# Altium schematic symbol library sch.SchLib: 348 symbols (part 1 of 2)
Pins are listed as number, name and electrical type; pins without a type are passive.

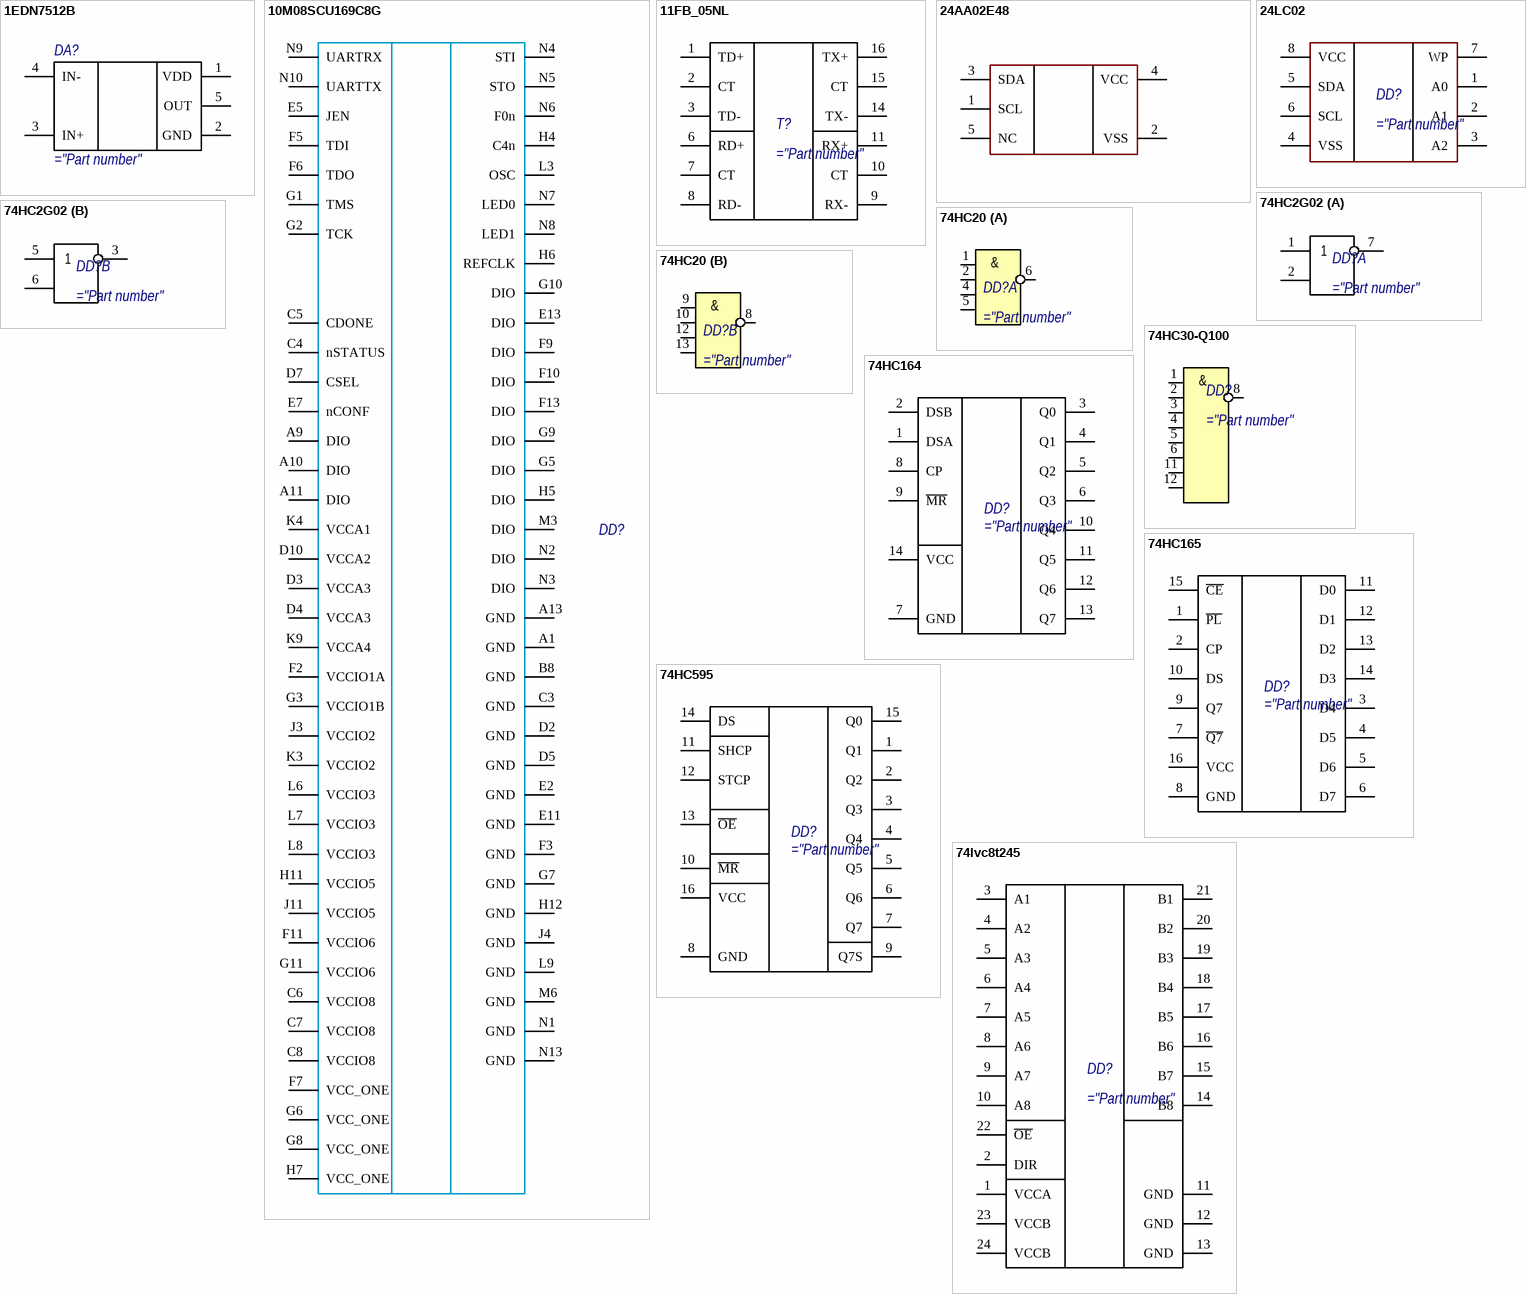
[diagram p0: symbols 1EDN7512B to 74lvc8t245]

## 1EDN7512B
designator DA?
pins: 1 VDD, 2 GND, 3 IN+, 4 IN-, 5 OUT

## 10M08SCU169C8G
designator DD?
pins: A1 GND, A9 DIO, A10 DIO, A11 DIO, A13 GND, B8 GND, C3 GND, C4 nSTATUS, C5 CDONE, C6 VCCIO8, C7 VCCIO8, C8 VCCIO8, D2 GND, D3 VCCA3, D4 VCCA3, D5 GND, D7 CSEL, D10 VCCA2, E2 GND, E5 JEN, E7 nCONF, E11 GND, E13 DIO, F2 VCCIO1A, F3 GND, F5 TDI, F6 TDO, F7 VCC_ONE, F9 DIO, F10 DIO, F11 VCCIO6, F13 DIO, G1 TMS, G2 TCK, G3 VCCIO1B, G5 DIO, G6 VCC_ONE, G7 GND, G8 VCC_ONE, G9 DIO, G10 DIO, G11 VCCIO6, H4 C4n, H5 DIO, H6 REFCLK, H7 VCC_ONE, H11 VCCIO5, H12 GND, J3 VCCIO2, J4 GND, J11 VCCIO5, K3 VCCIO2, K4 VCCA1, K9 VCCA4, L3 OSC, L6 VCCIO3, L7 VCCIO3, L8 VCCIO3, L9 GND, M3 DIO, M6 GND, N1 GND, N2 DIO, N3 DIO, N4 STI, N5 STO, N6 F0n, N7 LED0, N8 LED1, N9 UARTRX, N10 UARTTX, N13 GND

## 11FB_05NL
designator T?
pins: 1 TD+, 2 CT, 3 TD-, 6 RD+, 7 CT, 8 RD-, 9 RX-, 10 CT, 11 RX+, 14 TX-, 15 CT, 16 TX+

## 24AA02E48
designator DA?
pins: 1 SCL, 2 VSS, 3 SDA, 4 VCC, 5 NC

## 24LC02
designator DD?
pins: 1 A0, 2 A1, 3 A2, 4 VSS, 5 SDA, 6 SCL, 7 WP, 8 VCC

## 74HC2G02
designator DD?
part A pins: 1 A, 2 B, 4 GND hidden to GND, 7 Y, 8 VDD hidden to VDD
part B pins: 3 Y, 5 A, 6 B

## 74HC20
designator DD?
part A pins: 1 A, 2 B, 4 C, 5 D, 6 Y, 7 GND hidden to GND, 14 VDD hidden to VDD
part B pins: 8 Y, 9 A, 10 B, 12 C, 13 D
part A text: &
part B text: &

## 74HC30-Q100
designator DD?
pins: 1 A, 2 B, 3 C, 4 D, 5 E, 6 F, 7 GND hidden to GND, 7 GND hidden to GND, 8 D, 11 G, 12 H, 14 VDD hidden to VDD, 14 VDD hidden to VDD
text: &

## 74HC164
designator DD?
pins: 1 DSA, 2 DSB, 3 Q0, 4 Q1, 5 Q2, 6 Q3, 7 GND, 8 CP, 9 ~{MR}, 10 Q4, 11 Q5, 12 Q6, 13 Q7, 14 VCC

## 74HC165
designator DD?
pins: 1 ~{PL}, 2 CP, 3 D4, 4 D5, 5 D6, 6 D7, 7 ~{Q7}, 8 GND, 9 Q7, 10 DS, 11 D0, 12 D1, 13 D2, 14 D3, 15 ~{CE}, 16 VCC

## 74HC595
designator DD?
pins: 1 Q1, 2 Q2, 3 Q3, 4 Q4, 5 Q5, 6 Q6, 7 Q7, 8 GND, 9 Q7S, 10 ~{MR}, 11 SHCP, 12 STCP, 13 ~{OE}, 14 DS, 15 Q0, 16 VCC

## 74lvc8t245
designator DD?
pins: 1 VCCA, 2 DIR, 3 A1, 4 A2, 5 A3, 6 A4, 7 A5, 8 A6, 9 A7, 10 A8, 11 GND, 12 GND, 13 GND, 14 B8, 15 B7, 16 B6, 17 B5, 18 B4, 19 B3, 20 B2, 21 B1, 22 ~{OE}, 23 VCCB, 24 VCCB
1 alternate drawing of the same symbol

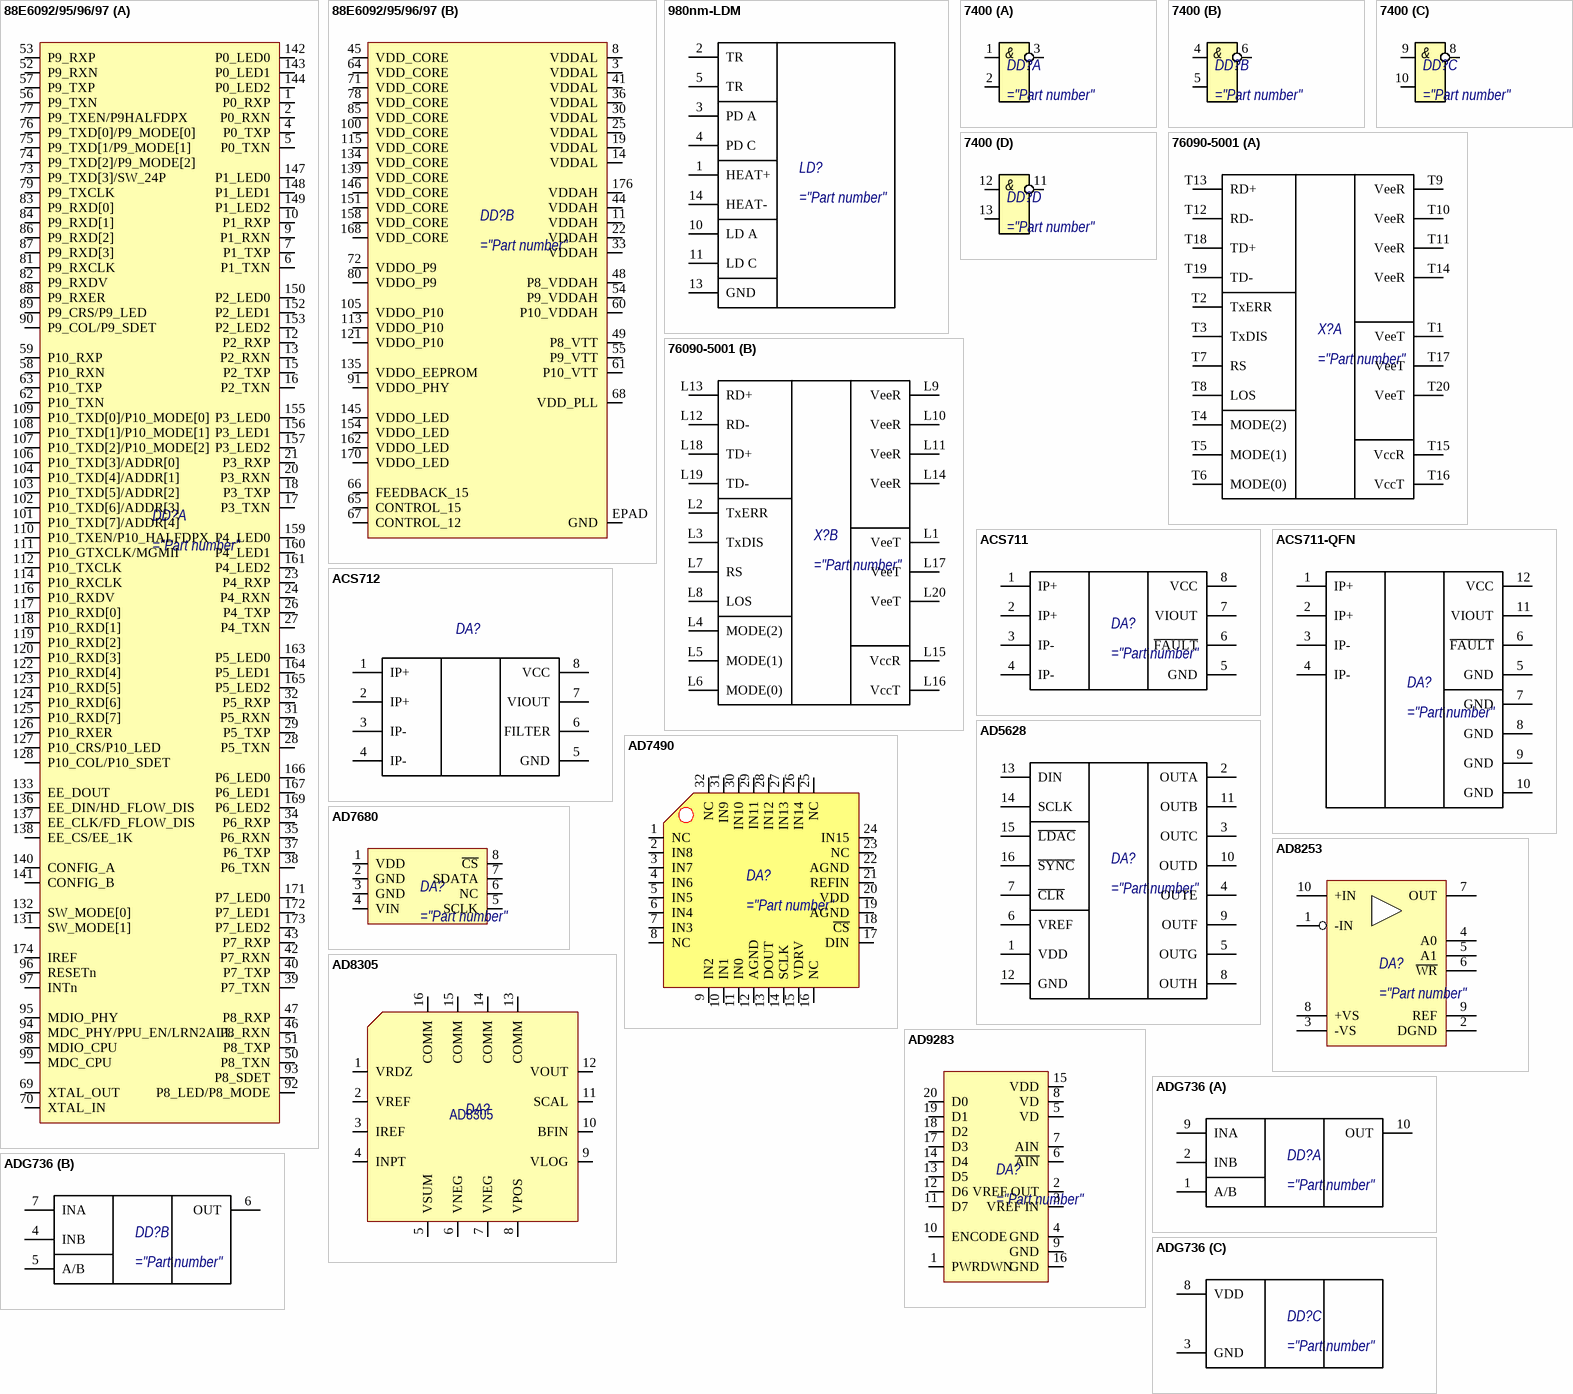
[diagram p1: symbols 88E6092/95/96/97 to ADG736]

## 88E6092/95/96/97
designator DD?
part A pins: 1 P0_RXP, 2 P0_RXN, 4 P0_TXP, 5 P0_TXN, 6 P1_TXN, 7 P1_TXP, 9 P1_RXN, 10 P1_RXP, 12 P2_RXP, 13 P2_RXN, 15 P2_TXP, 16 P2_TXN, 17 P3_TXN, 18 P3_TXP, 20 P3_RXN, 21 P3_RXP, 23 P4_RXP, 24 P4_RXN, 26 P4_TXP, 27 P4_TXN, 28 P5_TXN, 29 P5_TXP, 31 P5_RXN, 32 P5_RXP, 34 P6_RXP, 35 P6_RXN, 37 P6_TXP, 38 P6_TXN, 39 P7_TXN, 40 P7_TXP, 42 P7_RXN, 43 P7_RXP, 46 P8_RXN, 47 P8_RXP, 50 P8_TXN, 51 P8_TXP, 52 P9_RXN, 53 P9_RXP, 56 P9_TXN, 57 P9_TXP, 58 P10_RXN, 59 P10_RXP, 62 P10_TXN, 63 P10_TXP, 69 XTAL_OUT, 70 XTAL_IN, 73 P9_TXD[3]/SW_24P, 74 P9_TXD[2]/P9_MODE[2], 75 P9_TXD[1/P9_MODE[1], 76 P9_TXD[0]/P9_MODE[0], 77 P9_TXEN/P9HALFDPX, 79 P9_TXCLK, 81 P9_RXCLK, 82 P9_RXDV, 83 P9_RXD[0], 84 P9_RXD[1], 86 P9_RXD[2], 87 P9_RXD[3], 88 P9_RXER, 89 P9_CRS/P9_LED, 90 P9_COL/P9_SDET, 92 P8_LED/P8_MODE, 93 P8_SDET, 94 MDC_PHY/PPU_EN/LRN2ALL, 95 MDIO_PHY, 96 RESETn, 97 INTn, 98 MDIO_CPU, 99 MDC_CPU, 101 P10_TXD[7]/ADDR[4], 102 P10_TXD[6]/ADDR[3], 103 P10_TXD[5]/ADDR[2], 104 P10_TXD[4]/ADDR[1], 106 P10_TXD[3]/ADDR[0], 107 P10_TXD[2]/P10_MODE[2], 108 P10_TXD[1]/P10_MODE[1], 109 P10_TXD[0]/P10_MODE[0], 110 P10_TXEN/P10_HALFDPX, 111 P10_GTXCLK/MGMII, 112 P10_TXCLK, 114 P10_RXCLK, 116 P10_RXDV, 117 P10_RXD[0], 118 P10_RXD[1], 119 P10_RXD[2], 120 P10_RXD[3], 122 P10_RXD[4], 123 P10_RXD[5], 124 P10_RXD[6], 125 P10_RXD[7], 126 P10_RXER, 127 P10_CRS/P10_LED, 128 P10_COL/P10_SDET, 131 SW_MODE[1], 132 SW_MODE[0], 133 EE_DOUT, 136 EE_DIN/HD_FLOW_DIS, 137 EE_CLK/FD_FLOW_DIS, 138 EE_CS/EE_1K, 140 CONFIG_A, 141 CONFIG_B, 142 P0_LED0, 143 P0_LED1, 144 P0_LED2, 147 P1_LED0, 148 P1_LED1, 149 P1_LED2, 150 P2_LED0, 152 P2_LED1, 153 P2_LED2, 155 P3_LED0, 156 P3_LED1, 157 P3_LED2, 159 P4_LED0, 160 P4_LED1, 161 P4_LED2, 163 P5_LED0, 164 P5_LED1, 165 P5_LED2, 166 P6_LED0, 167 P6_LED1, 169 P6_LED2, 171 P7_LED0, 172 P7_LED1, 173 P7_LED2, 174 IREF
part B pins: 3 VDDAL, 8 VDDAL, 11 VDDAH, 14 VDDAL, 19 VDDAL, 22 VDDAH, 25 VDDAL, 30 VDDAL, 33 VDDAH, 36 VDDAL, 41 VDDAL, 44 VDDAH, 45 VDD_CORE, 48 P8_VDDAH, 49 P8_VTT, 54 P9_VDDAH, 55 P9_VTT, 60 P10_VDDAH, 61 P10_VTT, 64 VDD_CORE, 65 CONTROL_15, 66 FEEDBACK_15, 67 CONTROL_12, 68 VDD_PLL, 71 VDD_CORE, 72 VDDO_P9, 78 VDD_CORE, 80 VDDO_P9, 85 VDD_CORE, 91 VDDO_PHY, 100 VDD_CORE, 105 VDDO_P10, 113 VDDO_P10, 115 VDD_CORE, 121 VDDO_P10, 134 VDD_CORE, 135 VDDO_EEPROM, 139 VDD_CORE, 145 VDDO_LED, 146 VDD_CORE, 151 VDD_CORE, 154 VDDO_LED, 158 VDD_CORE, 162 VDDO_LED, 168 VDD_CORE, 170 VDDO_LED, 176 VDDAH, EPAD GND

## 980nm-LDM
designator LD?
pins: 1 HEAT+, 2 TR, 3 PD A, 4 PD C, 5 TR, 10 LD A, 11 LD C, 13 GND, 14 HEAT-

## 7400
designator DD?
part A pins: 1 A, 2 B, 3 Y, 7 GND hidden to GND, 14 VDD hidden to VDD
part B pins: 4 A, 5 B, 6 Y
part C pins: 8 Y, 9 A, 10 B
part D pins: 11 Y, 12 A, 13 B
part A text: &
part B text: &
part C text: &
part D text: &

## 76090-5001
designator X?
part A pins: T1 VeeT, T2 TxERR, T3 TxDIS, T4 MODE(2), T5 MODE(1), T6 MODE(0), T7 RS, T8 LOS, T9 VeeR, T10 VeeR, T11 VeeR, T12 RD-, T13 RD+, T14 VeeR, T15 VccR, T16 VccT, T17 VeeT, T18 TD+, T19 TD-, T20 VeeT
part B pins: L1 VeeT, L2 TxERR, L3 TxDIS, L4 MODE(2), L5 MODE(1), L6 MODE(0), L7 RS, L8 LOS, L9 VeeR, L10 VeeR, L11 VeeR, L12 RD-, L13 RD+, L14 VeeR, L15 VccR, L16 VccT, L17 VeeT, L18 TD+, L19 TD-, L20 VeeT

## ACS711
designator DA?
pins: 1 IP+, 2 IP+, 3 IP-, 4 IP-, 5 GND, 6 ~{FAULT}, 7 VIOUT, 8 VCC

## ACS711-QFN
designator DA?
pins: 1 IP+, 2 IP+, 3 IP-, 4 IP-, 5 GND, 6 ~{FAULT}, 7 GND, 8 GND, 9 GND, 10 GND, 11 VIOUT, 12 VCC

## ACS712
designator DA?
footprint SOIC
pins: 1 IP+, 2 IP+, 3 IP-, 4 IP-, 5 GND, 6 FILTER, 7 VIOUT, 8 VCC

## AD5628
designator DA?
pins: 1 VDD, 2 OUTA, 3 OUTC, 4 OUTE, 5 OUTG, 6 VREF, 7 ~{CLR}, 8 OUTH, 9 OUTF, 10 OUTD, 11 OUTB, 12 GND, 13 DIN, 14 SCLK, 15 ~{LDAC}, 16 ~{SYNC}

## AD7490
designator DA?
pins: 1 NC, 2 IN8, 3 IN7, 4 IN6, 5 IN5, 6 IN4, 7 IN3, 8 NC, 9 IN2, 10 IN1, 11 IN0, 12 AGND, 13 DOUT, 14 SCLK, 15 VDRV, 16 NC, 17 DIN, 18 ~{CS}, 19 AGND, 20 VDD, 21 REFIN, 22 AGND, 23 NC, 24 IN15, 25 NC, 26 IN14, 27 IN13, 28 IN12, 29 IN11, 30 IN10, 31 IN9, 32 NC

## AD7680
designator DA?
pins: 1 VDD, 2 GND, 3 GND, 4 VIN, 5 SCLK, 6 NC, 7 SDATA, 8 ~{CS}

## AD8253
designator DA?
pins: 1 -IN, 2 DGND, 3 -VS, 4 A0, 5 A1, 6 ~{WR}, 7 OUT, 8 +VS, 9 REF, 10 +IN

## AD8305
designator DA?
pins: 1 VRDZ, 2 VREF, 3 IREF, 4 INPT, 5 VSUM, 6 VNEG, 7 VNEG, 8 VPOS, 9 VLOG, 10 BFIN, 11 SCAL, 12 VOUT, 13 COMM, 14 COMM, 15 COMM, 16 COMM
1 alternate drawing of the same symbol

## AD9283
designator DA?
pins: 1 PWRDWN, 2 VREF OUT, 3 VREF IN, 4 GND, 5 VD, 6 ~{AIN}, 7 AIN, 8 VD, 9 GND, 10 ENCODE, 11 D7, 12 D6, 13 D5, 14 D4, 15 VDD, 16 GND, 17 D3, 18 D2, 19 D1, 20 D0

## ADG736
designator DD?
part A pins: 1 A/B, 2 INB, 9 INA, 10 OUT
part B pins: 4 INB, 5 A/B, 6 OUT, 7 INA
part C pins: 3 GND, 8 VDD

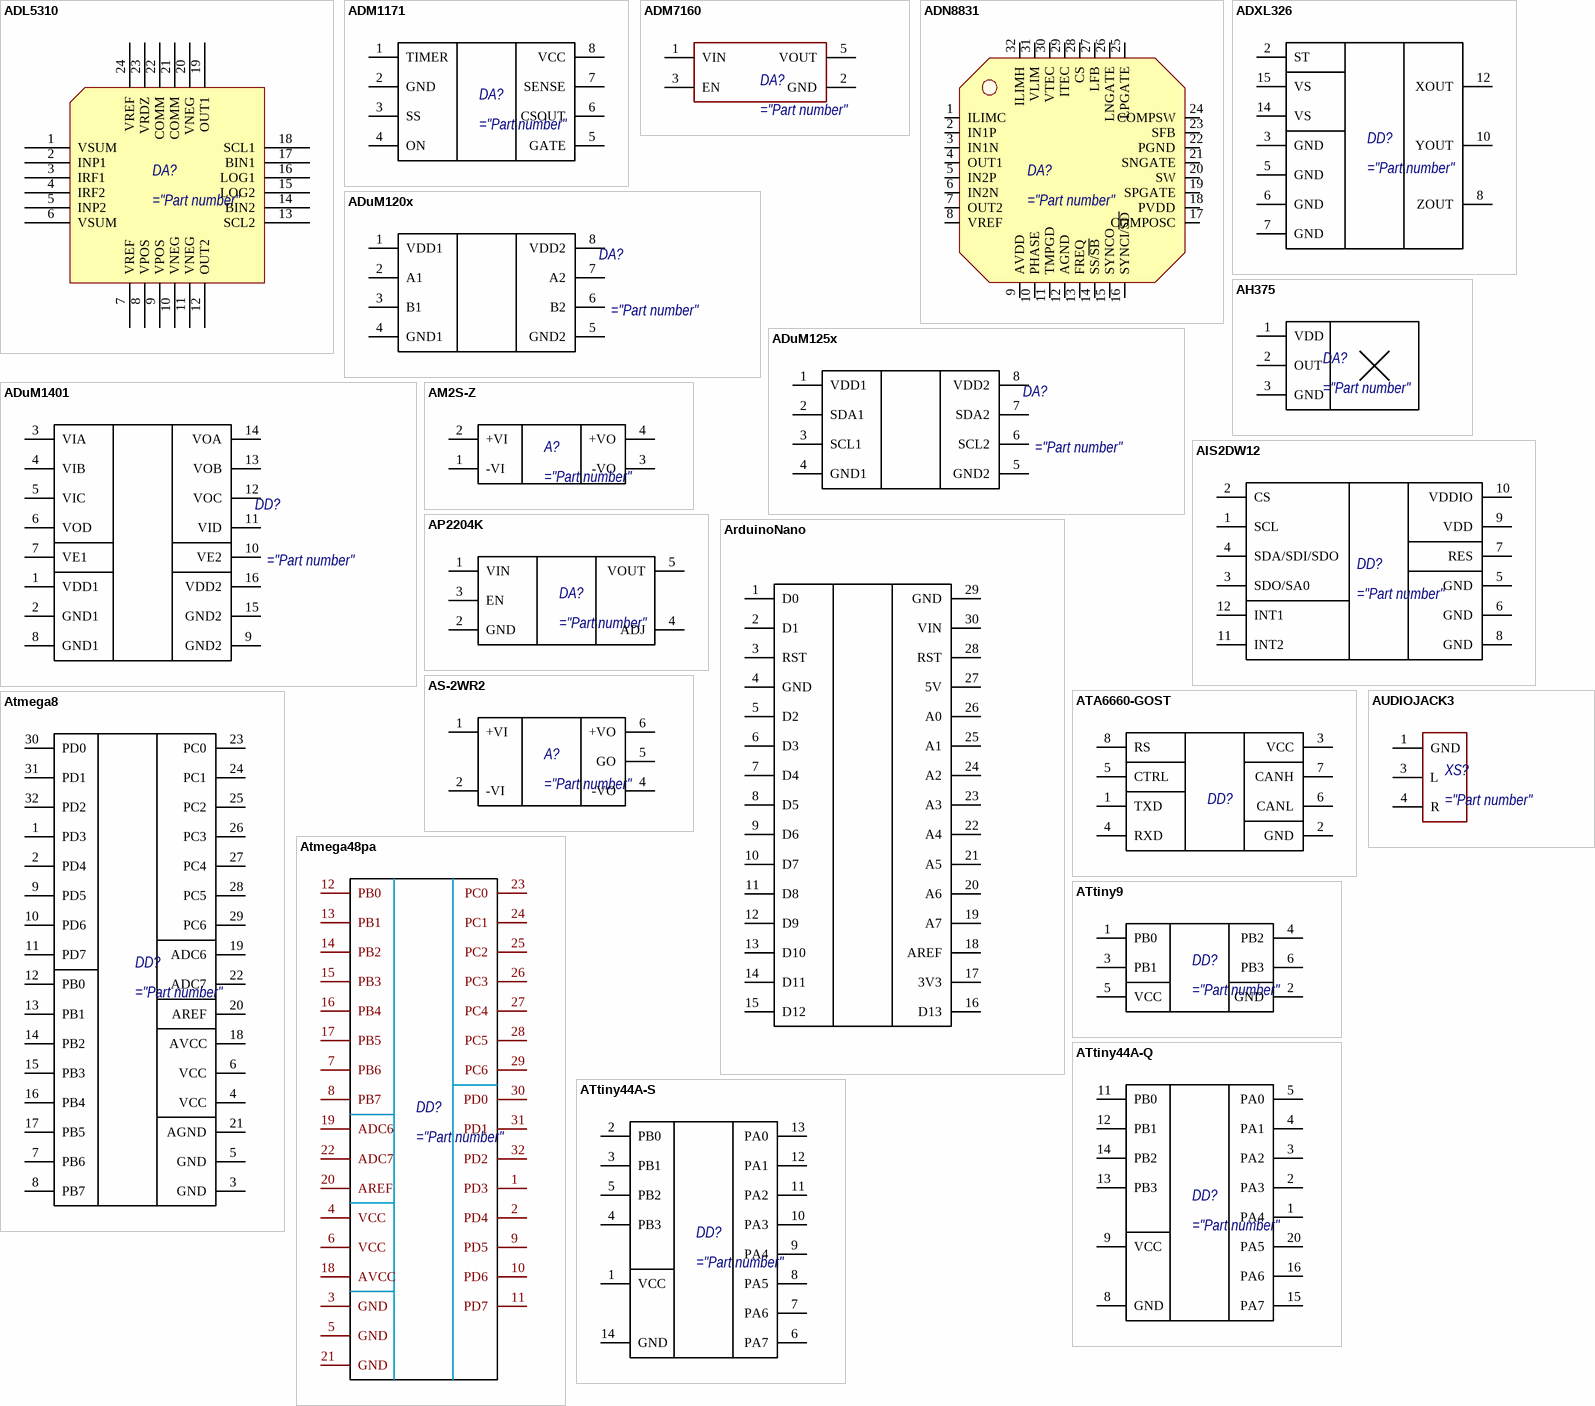
[diagram p2: symbols ADL5310 to AUDIOJACK3]

## ADL5310
designator DA?
pins: 1 VSUM, 2 INP1, 3 IRF1, 4 IRF2, 5 INP2, 6 VSUM, 7 VREF, 8 VPOS, 9 VPOS, 10 VNEG, 11 VNEG, 12 OUT2, 13 SCL2, 14 BIN2, 15 LOG2, 16 LOG1, 17 BIN1, 18 SCL1, 19 OUT1, 20 VNEG, 21 COMM, 22 COMM, 23 VRDZ, 24 VREF

## ADM1171
designator DA?
pins: 1 TIMER, 2 GND, 3 SS, 4 ON, 5 GATE, 6 CSOUT, 7 SENSE, 8 VCC

## ADM7160
designator DA?
pins: 1 VIN, 2 GND, 3 EN, 5 VOUT

## ADN8831
designator DA?
pins: 1 ILIMC, 2 IN1P, 3 IN1N, 4 OUT1, 5 IN2P, 6 IN2N, 7 OUT2, 8 VREF, 9 AVDD, 10 PHASE, 11 TMPGD, 12 AGND, 13 FREQ, 14 SS/~{SB}, 15 SYNCO, 16 SYNCI/~{SD}, 17 COMPOSC, 18 PVDD, 19 SPGATE, 20 SW, 21 SNGATE, 22 PGND, 23 SFB, 24 COMPSW, 25 LPGATE, 26 LNGATE, 27 LFB, 28 CS, 29 ITEC, 30 VTEC, 31 VLIM, 32 ILIMH

## ADuM120x
designator DA?
pins: 1 VDD1, 2 A1, 3 B1, 4 GND1, 5 GND2, 6 B2, 7 A2, 8 VDD2

## ADuM125x
designator DA?
pins: 1 VDD1, 2 SDA1, 3 SCL1, 4 GND1, 5 GND2, 6 SCL2, 7 SDA2, 8 VDD2

## ADuM1401
designator DD?
pins: 1 VDD1, 2 GND1, 3 VIA, 4 VIB, 5 VIC, 6 VOD, 7 VE1, 8 GND1, 9 GND2, 10 VE2, 11 VID, 12 VOC, 13 VOB, 14 VOA, 15 GND2, 16 VDD2

## ADXL326
designator DD?
pins: 2 ST, 3 GND, 5 GND, 6 GND, 7 GND, 8 ZOUT, 10 YOUT, 12 XOUT, 14 VS, 15 VS

## AH375
designator DA?
pins: 1 VDD, 2 OUT, 3 GND

## AIS2DW12
designator DD?
pins: 1 SCL, 2 CS, 3 SDO/SA0, 4 SDA/SDI/SDO, 5 GND, 6 GND, 7 RES, 8 GND, 9 VDD, 10 VDDIO, 11 INT2, 12 INT1

## AM2S-Z
designator A?
pins: 1 -VI, 2 +VI, 3 -VO, 4 +VO

## AP2204K
designator DA?
pins: 1 VIN, 2 GND, 3 EN, 4 ADJ, 5 VOUT

## ArduinoNano
designator DA?
pins: 1 D0, 2 D1, 3 RST, 4 GND, 5 D2, 6 D3, 7 D4, 8 D5, 9 D6, 10 D7, 11 D8, 12 D9, 13 D10, 14 D11, 15 D12, 16 D13, 17 3V3, 18 AREF, 19 A7, 20 A6, 21 A5, 22 A4, 23 A3, 24 A2, 25 A1, 26 A0, 27 5V, 28 RST, 29 GND, 30 VIN

## AS-2WR2
designator A?
pins: 1 +VI, 2 -VI, 4 -VO, 5 GO, 6 +VO

## ATA6660-GOST
designator DD?
pins: 1 TXD, 2 GND, 3 VCC, 4 RXD, 5 CTRL, 6 CANL, 7 CANH, 8 RS

## Atmega8
designator DD?
pins: 1 PD3, 2 PD4, 3 GND, 4 VCC, 5 GND, 6 VCC, 7 PB6, 8 PB7, 9 PD5, 10 PD6, 11 PD7, 12 PB0, 13 PB1, 14 PB2, 15 PB3, 16 PB4, 17 PB5, 18 AVCC, 19 ADC6, 20 AREF, 21 AGND, 22 ADC7, 23 PC0, 24 PC1, 25 PC2, 26 PC3, 27 PC4, 28 PC5, 29 PC6, 30 PD0, 31 PD1, 32 PD2

## Atmega48pa
designator DD?
pins: 1 PD3, 2 PD4, 3 GND, 4 VCC, 5 GND, 6 VCC, 7 PB6, 8 PB7, 9 PD5, 10 PD6, 11 PD7, 12 PB0, 13 PB1, 14 PB2, 15 PB3, 16 PB4, 17 PB5, 18 AVCC, 19 ADC6, 20 AREF, 21 GND, 22 ADC7, 23 PC0, 24 PC1, 25 PC2, 26 PC3, 27 PC4, 28 PC5, 29 PC6, 30 PD0, 31 PD1, 32 PD2

## ATtiny9
designator DD?
pins: 1 PB0, 2 GND, 3 PB1, 4 PB2, 5 VCC, 6 PB3

## ATtiny44A-Q
designator DD?
pins: 1 PA4, 2 PA3, 3 PA2, 4 PA1, 5 PA0, 8 GND, 9 VCC, 11 PB0, 12 PB1, 13 PB3, 14 PB2, 15 PA7, 16 PA6, 20 PA5

## ATtiny44A-S
designator DD?
pins: 1 VCC, 2 PB0, 3 PB1, 4 PB3, 5 PB2, 6 PA7, 7 PA6, 8 PA5, 9 PA4, 10 PA3, 11 PA2, 12 PA1, 13 PA0, 14 GND

## AUDIOJACK3
designator XS?
pins: 1 GND, 3 L, 4 R

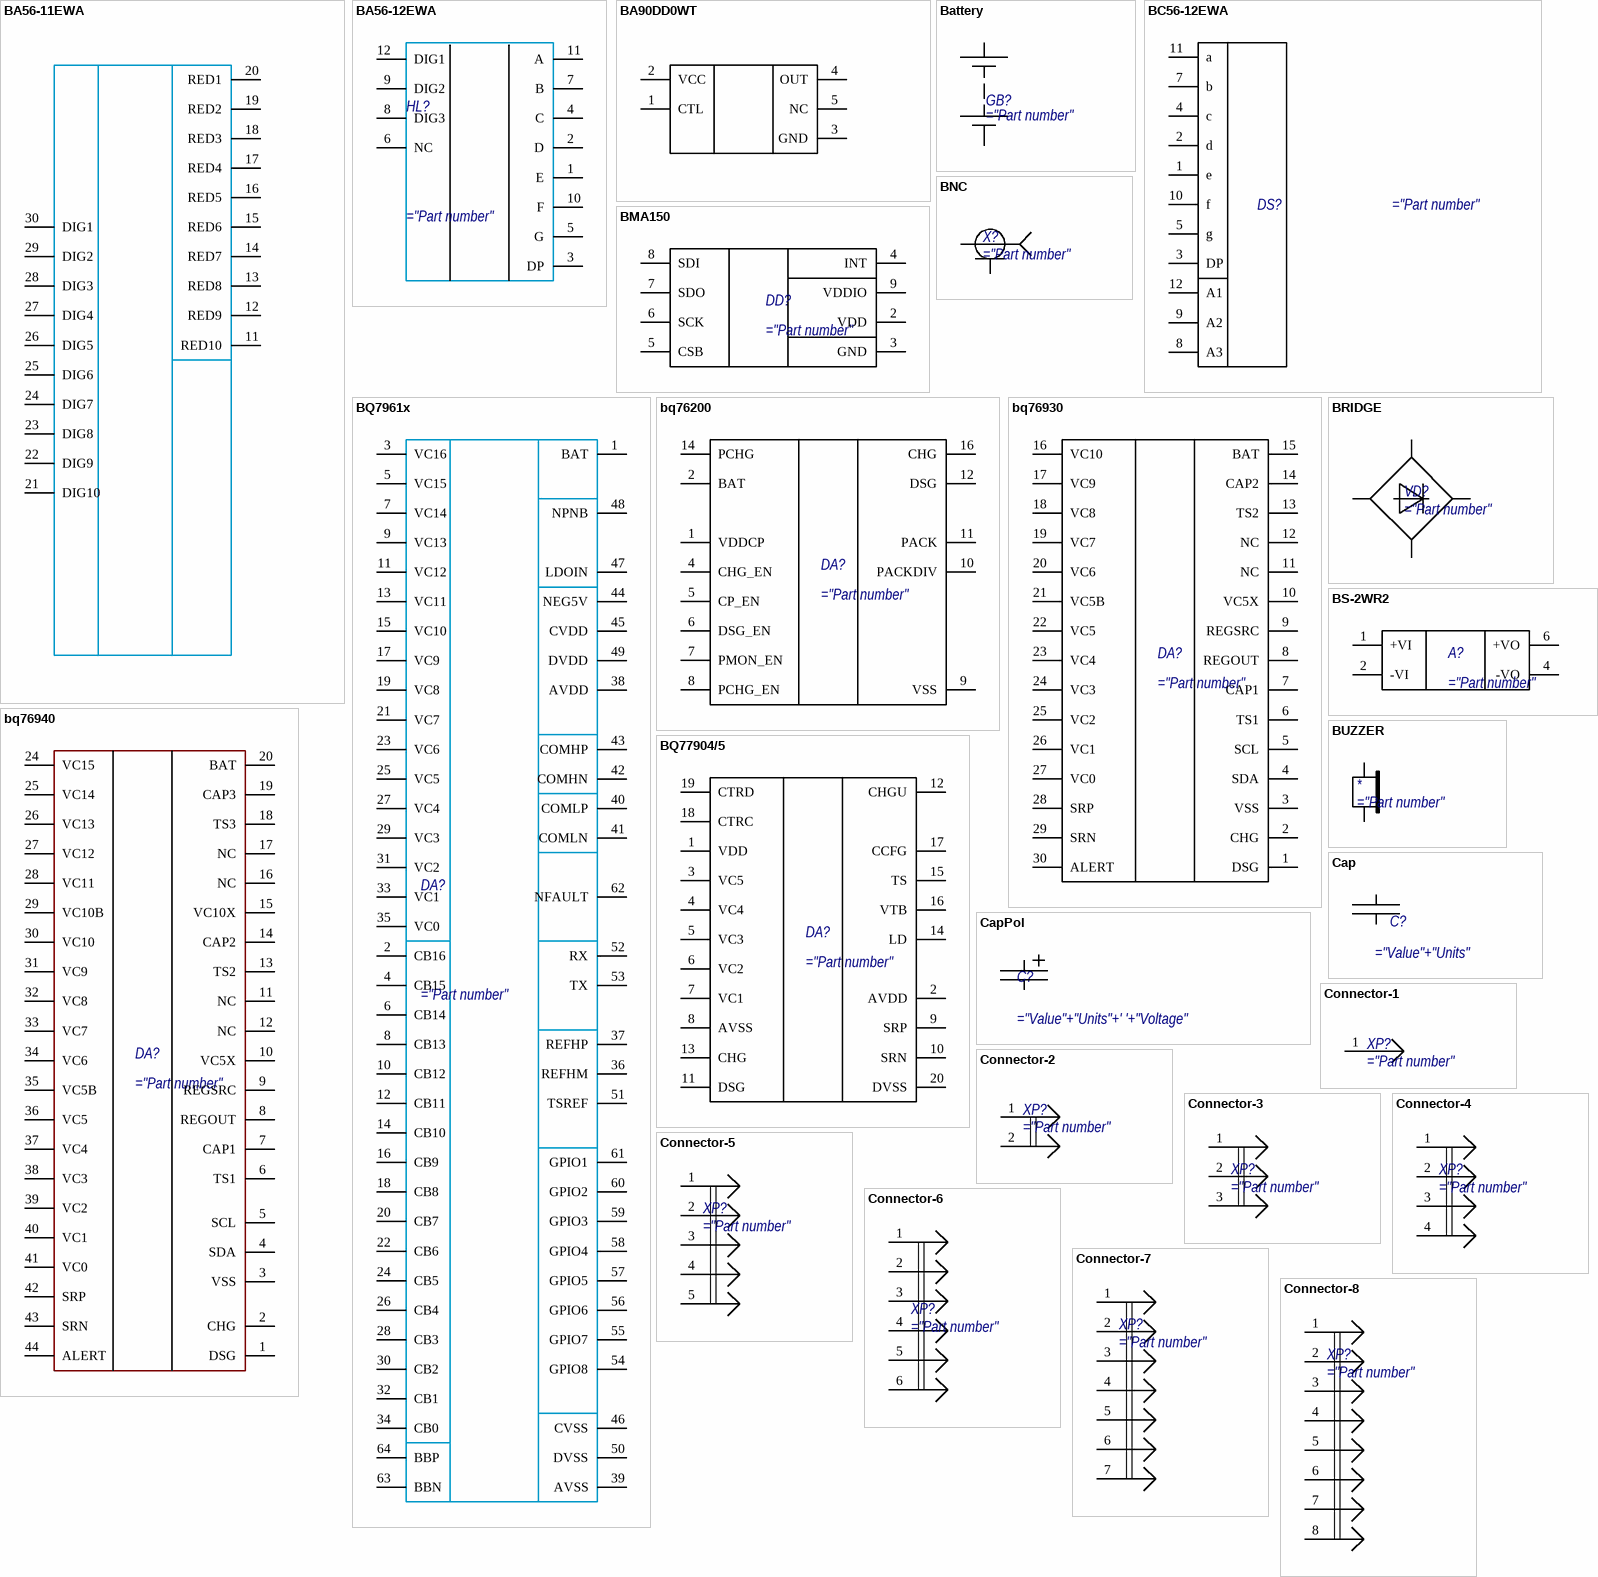
[diagram p3: symbols BA56-11EWA to Connector-8]

## BA56-11EWA
designator HL?
pins: 11 RED10, 12 RED9, 13 RED8, 14 RED7, 15 RED6, 16 RED5, 17 RED4, 18 RED3, 19 RED2, 20 RED1, 21 DIG10, 22 DIG9, 23 DIG8, 24 DIG7, 25 DIG6, 26 DIG5, 27 DIG4, 28 DIG3, 29 DIG2, 30 DIG1

## BA56-12EWA
designator HL?
pins: 1 E, 2 D, 3 DP, 4 C, 5 G, 6 NC, 7 B, 8 DIG3, 9 DIG2, 10 F, 11 A, 12 DIG1

## BA90DD0WT
designator DA?
pins: 1 CTL, 2 VCC, 3 GND, 4 OUT, 5 NC

## Battery
designator GB?
pins: 1 +, 2 -
1 alternate drawing of the same symbol

## BC56-12EWA
designator DS?
pins: 1 e "Digits (1-3) e Cathode", 2 d "Digits (1-3) d Cathode", 3 DP "DP Cathode", 4 c "Digits (1-3) c Cathode", 5 g "Digits (1-3) g Cathode", 7 b "Digits (1-3) b Cathode", 8 A3 "Common Anode3", 9 A2 "Common Anode2", 10 f "Digits (1-3) f Cathode", 11 a "Digits (1-3) a Cathode", 12 A1 "Common Anode1"

## BMA150
designator DD?
pins: 2 VDD, 3 GND, 4 INT, 5 CSB, 6 SCK, 7 SDO, 8 SDI, 9 VDDIO

## BNC
designator X?
pins: 1, 2

## BQ7961x
designator DA?
pins: 1 BAT, 2 CB16, 3 VC16, 4 CB15, 5 VC15, 6 CB14, 7 VC14, 8 CB13, 9 VC13, 10 CB12, 11 VC12, 12 CB11, 13 VC11, 14 CB10, 15 VC10, 16 CB9, 17 VC9, 18 CB8, 19 VC8, 20 CB7, 21 VC7, 22 CB6, 23 VC6, 24 CB5, 25 VC5, 26 CB4, 27 VC4, 28 CB3, 29 VC3, 30 CB2, 31 VC2, 32 CB1, 33 VC1, 34 CB0, 35 VC0, 36 REFHM, 37 REFHP, 38 AVDD, 39 AVSS, 40 COMLP, 41 COMLN, 42 COMHN, 43 COMHP, 44 NEG5V, 45 CVDD, 46 CVSS, 47 LDOIN, 48 NPNB, 49 DVDD, 50 DVSS, 51 TSREF, 52 RX, 53 TX, 54 GPIO8, 55 GPIO7, 56 GPIO6, 57 GPIO5, 58 GPIO4, 59 GPIO3, 60 GPIO2, 61 GPIO1, 62 NFAULT, 63 BBN, 64 BBP

## bq76200
designator DA?
pins: 1 VDDCP, 2 BAT, 4 CHG_EN, 5 CP_EN, 6 DSG_EN, 7 PMON_EN, 8 PCHG_EN, 9 VSS, 10 PACKDIV, 11 PACK, 12 DSG, 14 PCHG, 16 CHG

## bq76930
designator DA?
pins: 1 DSG, 2 CHG, 3 VSS, 4 SDA, 5 SCL, 6 TS1, 7 CAP1, 8 REGOUT, 9 REGSRC, 10 VC5X, 11 NC, 12 NC, 13 TS2, 14 CAP2, 15 BAT, 16 VC10, 17 VC9, 18 VC8, 19 VC7, 20 VC6, 21 VC5B, 22 VC5, 23 VC4, 24 VC3, 25 VC2, 26 VC1, 27 VC0, 28 SRP, 29 SRN, 30 ALERT

## bq76940
designator DA?
pins: 1 DSG, 2 CHG, 3 VSS, 4 SDA, 5 SCL, 6 TS1, 7 CAP1, 8 REGOUT, 9 REGSRC, 10 VC5X, 11 NC, 12 NC, 13 TS2, 14 CAP2, 15 VC10X, 16 NC, 17 NC, 18 TS3, 19 CAP3, 20 BAT, 24 VC15, 25 VC14, 26 VC13, 27 VC12, 28 VC11, 29 VC10B, 30 VC10, 31 VC9, 32 VC8, 33 VC7, 34 VC6, 35 VC5B, 36 VC5, 37 VC4, 38 VC3, 39 VC2, 40 VC1, 41 VC0, 42 SRP, 43 SRN, 44 ALERT

## BQ77904/5
designator DA?
pins: 1 VDD, 2 AVDD, 3 VC5, 4 VC4, 5 VC3, 6 VC2, 7 VC1, 8 AVSS, 9 SRP, 10 SRN, 11 DSG, 12 CHGU, 13 CHG, 14 LD, 15 TS, 16 VTB, 17 CCFG, 18 CTRC, 19 CTRD, 20 DVSS

## BRIDGE
designator VD?
pins: A, AC1, AC2, C
1 alternate drawing of the same symbol

## BS-2WR2
designator A?
pins: 1 +VI, 2 -VI, 4 -VO, 6 +VO

## BUZZER
designator *
pins: 1, 2

## Cap
designator C?
signal-integrity model Cap
pins: 1, 2

## CapPol
designator C?
pins: 1, 2

## Connector-1
designator XP?
pins: 1

## Connector-2
designator XP?
pins: 1, 2
2 alternate drawings of the same symbol

## Connector-3
designator XP?
pins: 1, 2, 3

## Connector-4
designator XP?
pins: 1, 2, 3, 4

## Connector-5
designator XP?
pins: 1, 2, 3, 4, 5

## Connector-6
designator XP?
pins: 1, 2, 3, 4, 5, 6
1 alternate drawing of the same symbol

## Connector-7
designator XP?
pins: 1, 2, 3, 4, 5, 6, 7

## Connector-8
designator XP?
pins: 1, 2, 3, 4, 5, 6, 7, 8
1 alternate drawing of the same symbol

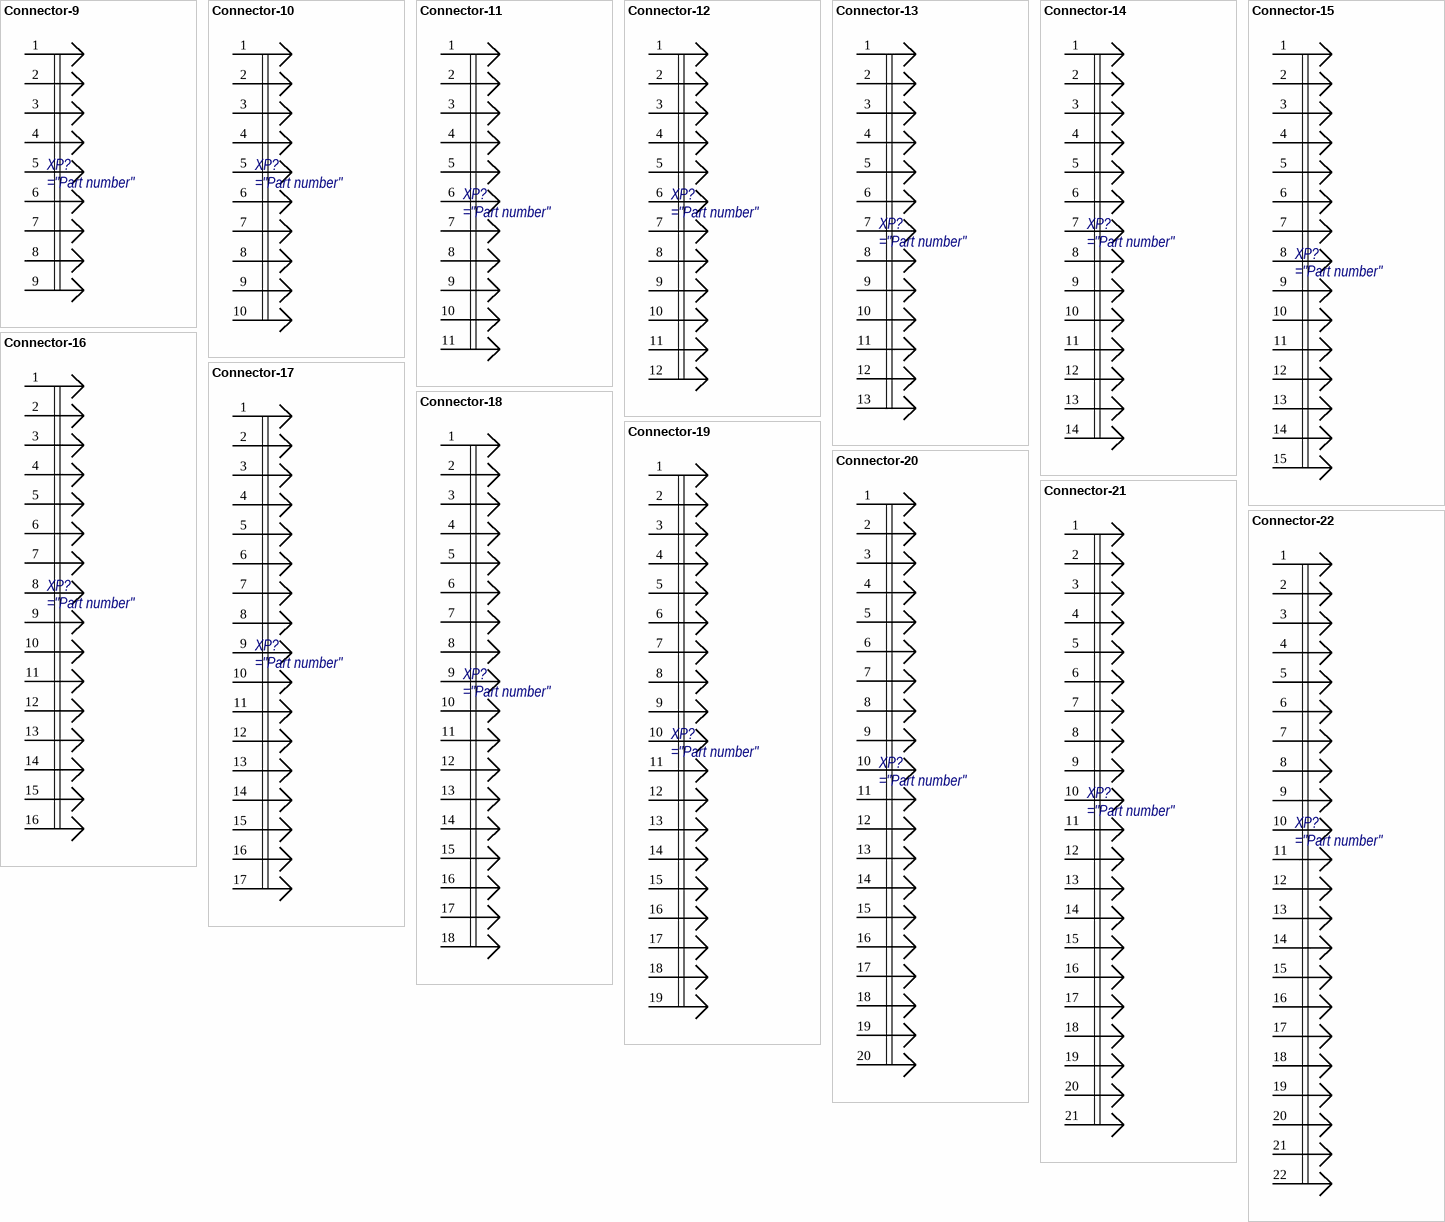
[diagram p4: symbols Connector-9 to Connector-22]

## Connector-9
designator XP?
pins: 1, 2, 3, 4, 5, 6, 7, 8, 9
1 alternate drawing of the same symbol

## Connector-10
designator XP?
pins: 1, 2, 3, 4, 5, 6, 7, 8, 9, 10
1 alternate drawing of the same symbol

## Connector-11
designator XP?
pins: 1, 2, 3, 4, 5, 6, 7, 8, 9, 10, 11

## Connector-12
designator XP?
pins: 1, 2, 3, 4, 5, 6, 7, 8, 9, 10, 11, 12

## Connector-13
designator XP?
pins: 1, 2, 3, 4, 5, 6, 7, 8, 9, 10, 11, 12, 13

## Connector-14
designator XP?
pins: 1, 2, 3, 4, 5, 6, 7, 8, 9, 10, 11, 12, 13, 14
1 alternate drawing of the same symbol

## Connector-15
designator XP?
pins: 1, 2, 3, 4, 5, 6, 7, 8, 9, 10, 11, 12, 13, 14, 15

## Connector-16
designator XP?
pins: 1, 2, 3, 4, 5, 6, 7, 8, 9, 10, 11, 12, 13, 14, 15, 16

## Connector-17
designator XP?
pins: 1, 2, 3, 4, 5, 6, 7, 8, 9, 10, 11, 12, 13, 14, 15, 16, 17

## Connector-18
designator XP?
pins: 1, 2, 3, 4, 5, 6, 7, 8, 9, 10, 11, 12, 13, 14, 15, 16, 17, 18

## Connector-19
designator XP?
pins: 1, 2, 3, 4, 5, 6, 7, 8, 9, 10, 11, 12, 13, 14, 15, 16, 17, 18, 19

## Connector-20
designator XP?
pins: 1, 2, 3, 4, 5, 6, 7, 8, 9, 10, 11, 12, 13, 14, 15, 16, 17, 18, 19, 20
2 alternate drawings of the same symbol

## Connector-21
designator XP?
pins: 1, 2, 3, 4, 5, 6, 7, 8, 9, 10, 11, 12, 13, 14, 15, 16, 17, 18, 19, 20, 21

## Connector-22
designator XP?
pins: 1, 2, 3, 4, 5, 6, 7, 8, 9, 10, 11, 12, 13, 14, 15, 16, 17, 18, 19, 20, 21, 22

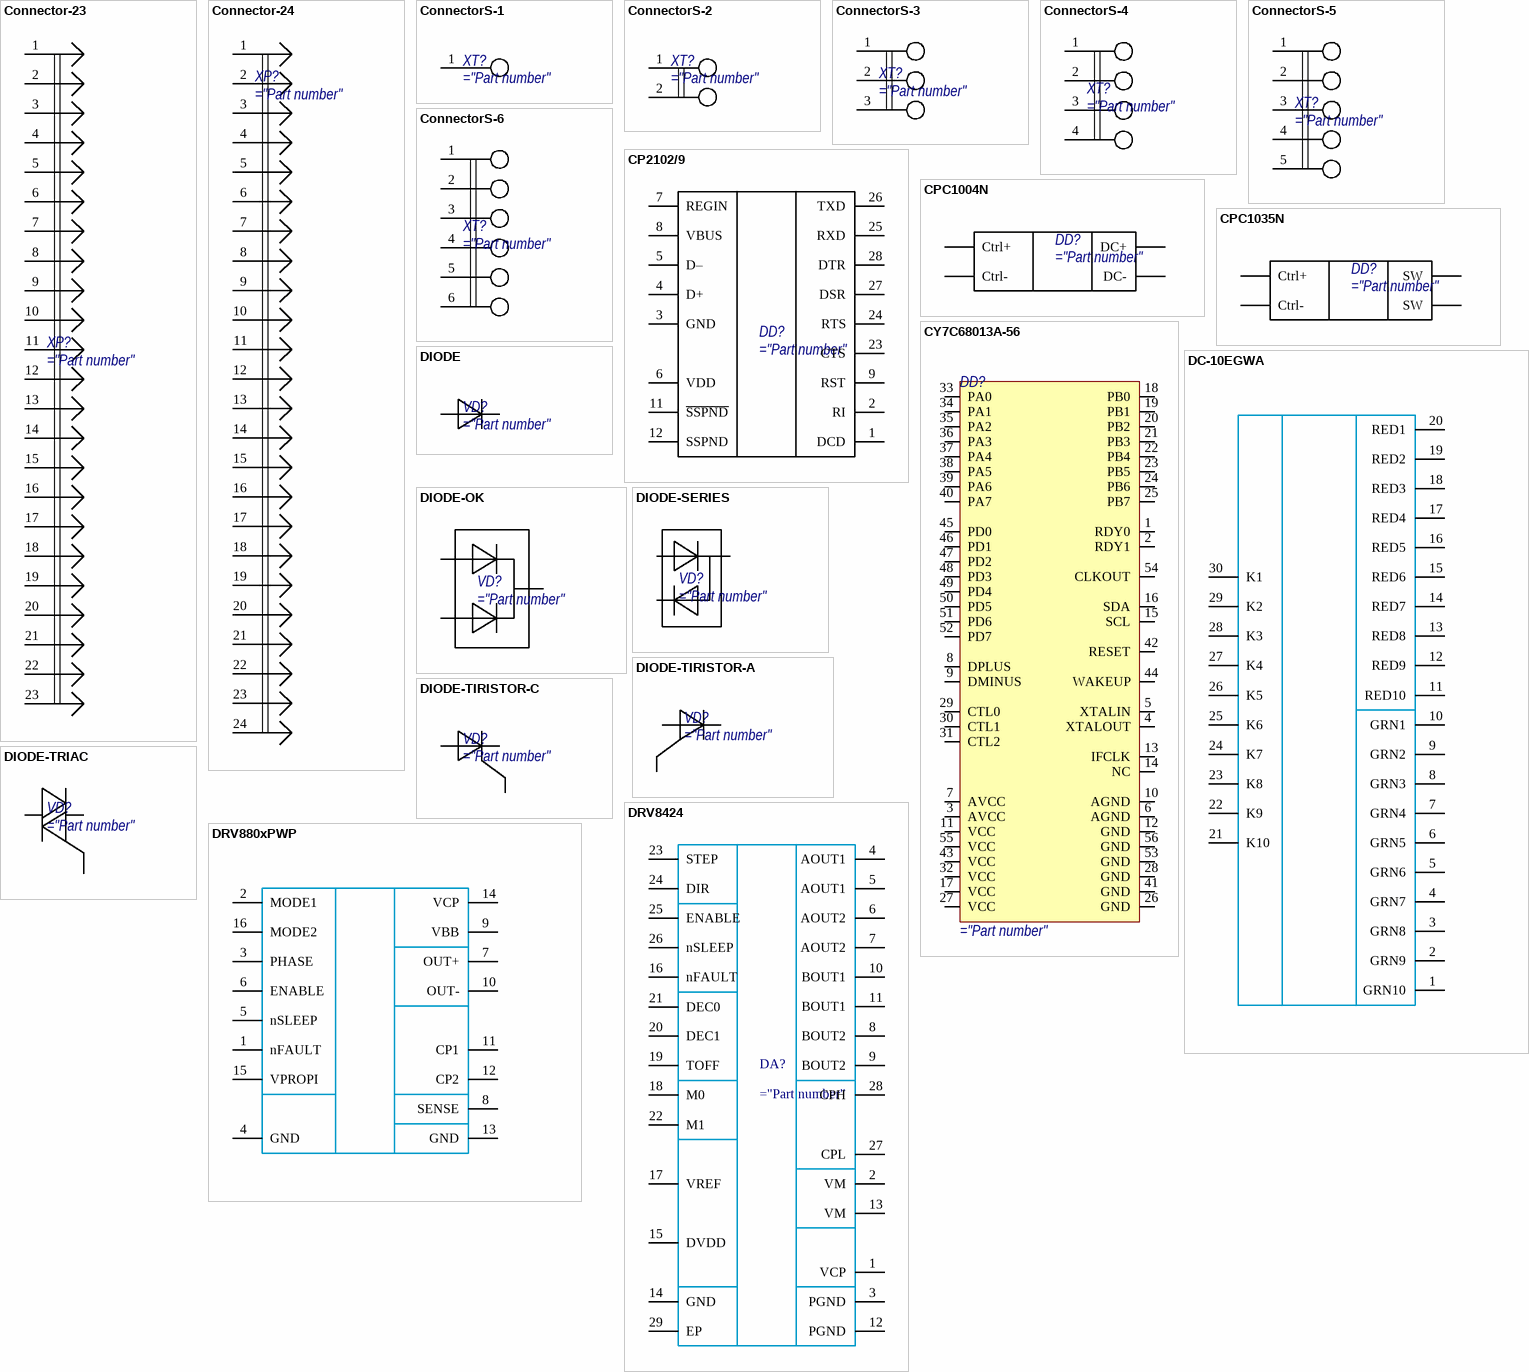
[diagram p5: symbols Connector-23 to DRV8424]

## Connector-23
designator XP?
pins: 1, 2, 3, 4, 5, 6, 7, 8, 9, 10, 11, 12, 13, 14, 15, 16, 17, 18, 19, 20, 21, 22, 23

## Connector-24
designator XP?
pins: 1, 2, 3, 4, 5, 6, 7, 8, 9, 10, 11, 12, 13, 14, 15, 16, 17, 18, 19, 20, 21, 22, 23, 24

## ConnectorS-1
designator XT?
pins: 1

## ConnectorS-2
designator XT?
pins: 1, 2

## ConnectorS-3
designator XT?
pins: 1, 2, 3

## ConnectorS-4
designator XT?
pins: 1, 2, 3, 4

## ConnectorS-5
designator XT?
pins: 1, 2, 3, 4, 5

## ConnectorS-6
designator XT?
pins: 1, 2, 3, 4, 5, 6

## CP2102/9
designator DD?
pins: 1 DCD, 2 RI, 3 GND, 4 D+, 5 D–, 6 VDD, 7 REGIN, 8 VBUS, 9 RST, 11 ~{SSPND}, 12 SSPND, 23 CTS, 24 RTS, 25 RXD, 26 TXD, 27 DSR, 28 DTR

## CPC1004N
designator DD?
pins: 1 Ctrl+, 2 Ctrl-, 3 DC+, 4 DC-

## CPC1035N
designator DD?
pins: 1 Ctrl+, 2 Ctrl-, 3 SW, 4 SW
1 alternate drawing of the same symbol

## CY7C68013A-56
designator DD?
pins: 1 RDY0, 2 RDY1, 3 AVCC, 4 XTALOUT, 5 XTALIN, 6 AGND, 7 AVCC, 8 DPLUS, 9 DMINUS, 10 AGND, 11 VCC, 12 GND, 13 IFCLK, 14 NC, 15 SCL, 16 SDA, 17 VCC, 18 PB0, 19 PB1, 20 PB2, 21 PB3, 22 PB4, 23 PB5, 24 PB6, 25 PB7, 26 GND, 27 VCC, 28 GND, 29 CTL0, 30 CTL1, 31 CTL2, 32 VCC, 33 PA0, 34 PA1, 35 PA2, 36 PA3, 37 PA4, 38 PA5, 39 PA6, 40 PA7, 41 GND, 42 RESET, 43 VCC, 44 WAKEUP, 45 PD0, 46 PD1, 47 PD2, 48 PD3, 49 PD4, 50 PD5, 51 PD6, 52 PD7, 53 GND, 54 CLKOUT, 55 VCC, 56 GND

## DC-10EGWA
designator HL?
pins: 1 GRN10, 2 GRN9, 3 GRN8, 4 GRN7, 5 GRN6, 6 GRN5, 7 GRN4, 8 GRN3, 9 GRN2, 10 GRN1, 11 RED10, 12 RED9, 13 RED8, 14 RED7, 15 RED6, 16 RED5, 17 RED4, 18 RED3, 19 RED2, 20 RED1, 21 K10, 22 K9, 23 K8, 24 K7, 25 K6, 26 K5, 27 K4, 28 K3, 29 K2, 30 K1

## DIODE
designator VD?
pins: A, C

## DIODE-OK
designator VD?
pins: A1, A2, C

## DIODE-SERIES
designator VD?
pins: A, AC, C

## DIODE-TIRISTOR-A
designator VD?
pins: A, C, UE

## DIODE-TIRISTOR-C
designator VD?
pins: A, C, UE

## DIODE-TRIAC
designator VD?
pins: A, C, UE

## DRV880xPWP
designator X?
pins: 1 nFAULT, 2 MODE1, 3 PHASE, 4 GND, 5 nSLEEP, 6 ENABLE, 7 OUT+, 8 SENSE, 9 VBB, 10 OUT-, 11 CP1, 12 CP2, 13 GND, 14 VCP, 15 VPROPI, 16 MODE2

## DRV8424
designator DA?
pins: 1 VCP, 2 VM, 3 PGND, 4 AOUT1, 5 AOUT1, 6 AOUT2, 7 AOUT2, 8 BOUT2, 9 BOUT2, 10 BOUT1, 11 BOUT1, 12 PGND, 13 VM, 14 GND, 15 DVDD, 16 nFAULT, 17 VREF, 18 M0, 19 TOFF, 20 DEC1, 21 DEC0, 22 M1, 23 STEP, 24 DIR, 25 ENABLE, 26 nSLEEP, 27 CPL, 28 CPH, 29 EP

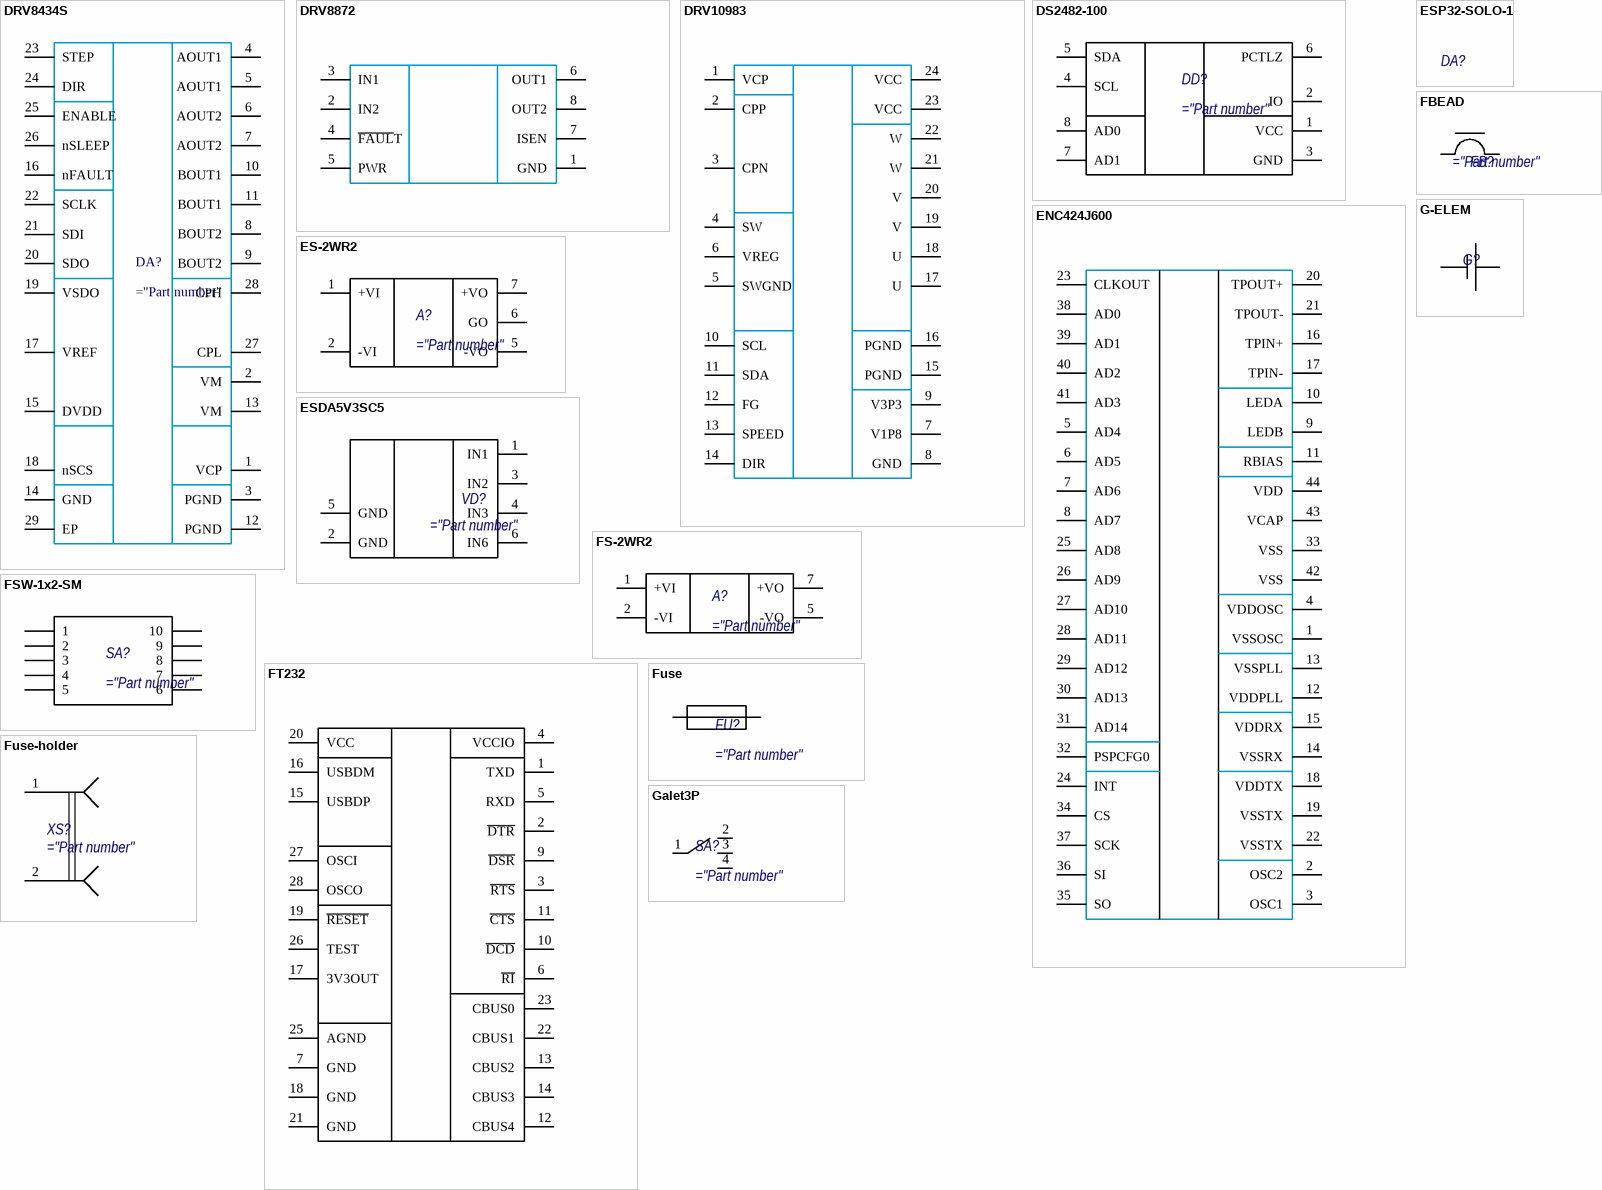
[diagram p6: symbols DRV8434S to Galet3P]

## DRV8434S
designator DA?
pins: 1 VCP, 2 VM, 3 PGND, 4 AOUT1, 5 AOUT1, 6 AOUT2, 7 AOUT2, 8 BOUT2, 9 BOUT2, 10 BOUT1, 11 BOUT1, 12 PGND, 13 VM, 14 GND, 15 DVDD, 16 nFAULT, 17 VREF, 18 nSCS, 19 VSDO, 20 SDO, 21 SDI, 22 SCLK, 23 STEP, 24 DIR, 25 ENABLE, 26 nSLEEP, 27 CPL, 28 CPH, 29 EP

## DRV8872
designator DA?
pins: 1 GND, 2 IN2, 3 IN1, 4 ~{FAUL}T, 5 PWR, 6 OUT1, 7 ISEN, 8 OUT2

## DRV10983
designator DA?
pins: 1 VCP, 2 CPP, 3 CPN, 4 SW, 5 SWGND, 6 VREG, 7 V1P8, 8 GND, 9 V3P3, 10 SCL, 11 SDA, 12 FG, 13 SPEED, 14 DIR, 15 PGND, 16 PGND, 17 U, 18 U, 19 V, 20 V, 21 W, 22 W, 23 VCC, 24 VCC

## DS2482-100
designator DD?
pins: 1 VCC, 2 IO, 3 GND, 4 SCL, 5 SDA, 6 PCTLZ, 7 AD1, 8 AD0

## ENC424J600
designator DD?
pins: 1 VSSOSC, 2 OSC2, 3 OSC1, 4 VDDOSC, 5 AD4, 6 AD5, 7 AD6, 8 AD7, 9 LEDB, 10 LEDA, 11 RBIAS, 12 VDDPLL, 13 VSSPLL, 14 VSSRX, 15 VDDRX, 16 TPIN+, 17 TPIN-, 18 VDDTX, 19 VSSTX, 20 TPOUT+, 21 TPOUT-, 22 VSSTX, 23 CLKOUT, 24 INT, 25 AD8, 26 AD9, 27 AD10, 28 AD11, 29 AD12, 30 AD13, 31 AD14, 32 PSPCFG0, 33 VSS, 34 CS, 35 SO, 36 SI, 37 SCK, 38 AD0, 39 AD1, 40 AD2, 41 AD3, 42 VSS, 43 VCAP, 44 VDD

## ES-2WR2
designator A?
pins: 1 +VI, 2 -VI, 5 -VO, 6 GO, 7 +VO

## ESDA5V3SC5
designator VD?
pins: 1 IN1, 2 GND, 3 IN2, 4 IN3, 5 GND, 6 IN6

## ESP32-SOLO-1
designator DA?

## FBEAD
designator FB?
pins: 1, 2
1 alternate drawing of the same symbol

## FS-2WR2
designator A?
pins: 1 +VI, 2 -VI, 5 -VO, 7 +VO

## FSW-1x2-SM
designator SA?
pins: 1, 2, 3, 4, 5, 6, 7, 8, 9, 10

## FT232
designator DA?
pins: 1 TXD, 2 ~{DTR}, 3 ~{RTS}, 4 VCCIO, 5 RXD, 6 ~{RI}, 7 GND, 9 ~{DSR}, 10 ~{DCD}, 11 ~{CTS}, 12 CBUS4, 13 CBUS2, 14 CBUS3, 15 USBDP, 16 USBDM, 17 3V3OUT, 18 GND, 19 ~{RESET}, 20 VCC, 21 GND, 22 CBUS1, 23 CBUS0, 25 AGND, 26 TEST, 27 OSCI, 28 OSCO

## Fuse
designator FU?
pins: 1, 2

## Fuse-holder
designator XS?
pins: 1, 2
2 alternate drawings of the same symbol

## G-ELEM
designator G?
pins: 1 -, 2 +

## Galet3P
designator SA?
pins: 1, 2, 3, 4
1 alternate drawing of the same symbol

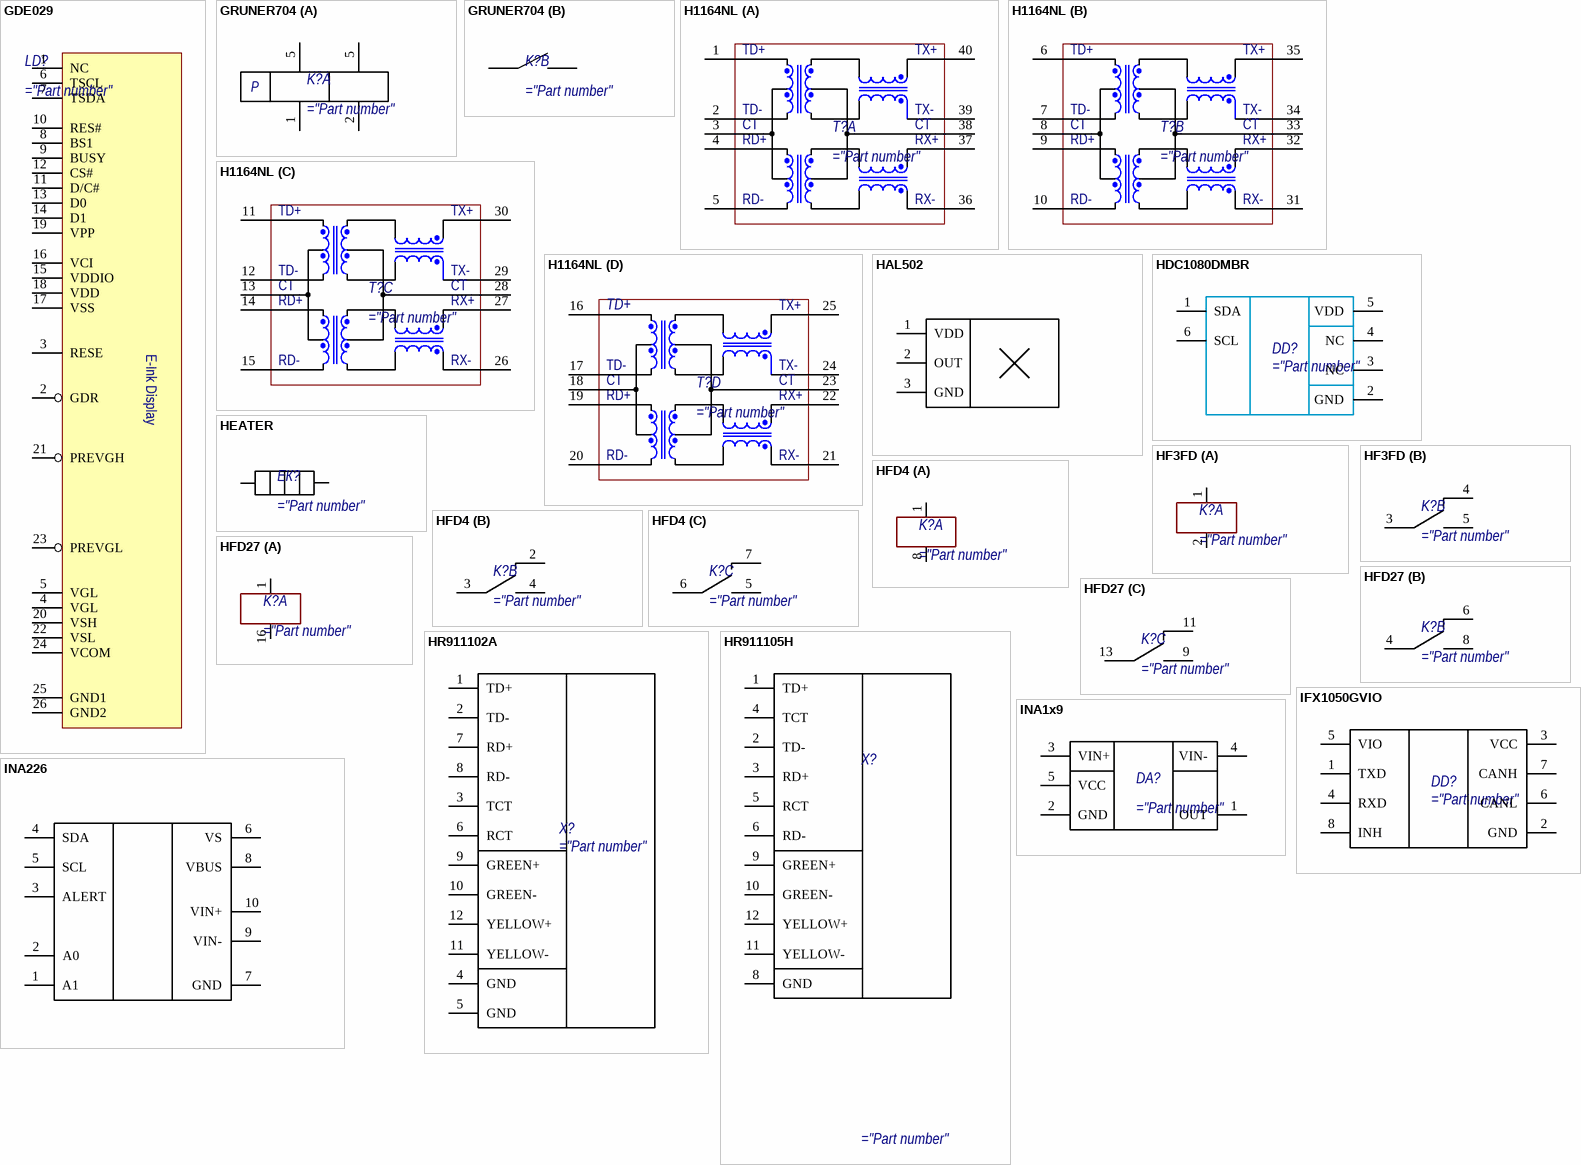
[diagram p7: symbols GDE029 to INA226]

## GDE029
designator LD?
pins: 1 NC, 2 GDR, 3 RESE, 4 VGL, 5 VGL, 6 TSCL, 7 TSDA, 8 BS1, 9 BUSY, 10 RES#, 11 D/C#, 12 CS#, 13 D0, 14 D1, 15 VDDIO, 16 VCI, 17 VSS, 18 VDD, 19 VPP, 20 VSH, 21 PREVGH, 22 VSL, 23 PREVGL, 24 VCOM, 25 GND1, 26 GND2
text: E-Ink Display

## GRUNER704
designator K?
part A pins: 1, 2, 5, 5
part B pins: S1, S2
1 alternate drawing of the same symbol
part A text: P

## H1164NL
designator T?
part A pins: 1 TD+, 2 TD-, 3 CT, 4 RD+, 5 RD-, 36 RX-, 37 RX+, 38 CT, 39 TX-, 40 TX+
part B pins: 6 TD+, 7 TD-, 8 CT, 9 RD+, 10 RD-, 31 RX-, 32 RX+, 33 CT, 34 TX-, 35 TX+
part C pins: 11 TD+, 12 TD-, 13 CT, 14 RD+, 15 RD-, 26 RX-, 27 RX+, 28 CT, 29 TX-, 30 TX+
part D pins: 16 TD+, 17 TD-, 18 CT, 19 RD+, 20 RD-, 21 RX-, 22 RX+, 23 CT, 24 TX-, 25 TX+

## HAL502
designator DA?
pins: 1 VDD, 2 OUT, 3 GND

## HDC1080DMBR
designator DD?
pins: 1 SDA, 2 GND, 3 NC, 4 NC, 5 VDD, 6 SCL

## HEATER
designator ЕК?
pins: 1, 2

## HF3FD
designator K?
part A pins: 1, 2
part B pins: 3, 4, 5

## HFD4
designator K?
part A pins: 1, 8
part B pins: 2, 3, 4
part C pins: 5, 6, 7
1 alternate drawing of the same symbol

## HFD27
designator K?
part A pins: 1, 16
part B pins: 4, 6, 8
part C pins: 9, 11, 13

## HR911102A
designator X?
pins: 1 TD+, 2 TD-, 3 TCT, 4 GND, 5 GND, 6 RCT, 7 RD+, 8 RD-, 9 GREEN+, 10 GREEN-, 11 YELLOW-, 12 YELLOW+

## HR911105H
designator X?
pins: 1 TD+, 2 TD-, 3 RD+, 4 TCT, 5 RCT, 6 RD-, 8 GND, 9 GREEN+, 10 GREEN-, 11 YELLOW-, 12 YELLOW+

## IFX1050GVIO
designator DD?
pins: 1 TXD, 2 GND, 3 VCC, 4 RXD, 5 VIO, 6 CANL, 7 CANH, 8 INH

## INA1x9
designator DA?
pins: 1 OUT, 2 GND, 3 VIN+, 4 VIN-, 5 VCC

## INA226
designator DA?
pins: 1 A1, 2 A0, 3 ALERT, 4 SDA, 5 SCL, 6 VS, 7 GND, 8 VBUS, 9 VIN-, 10 VIN+

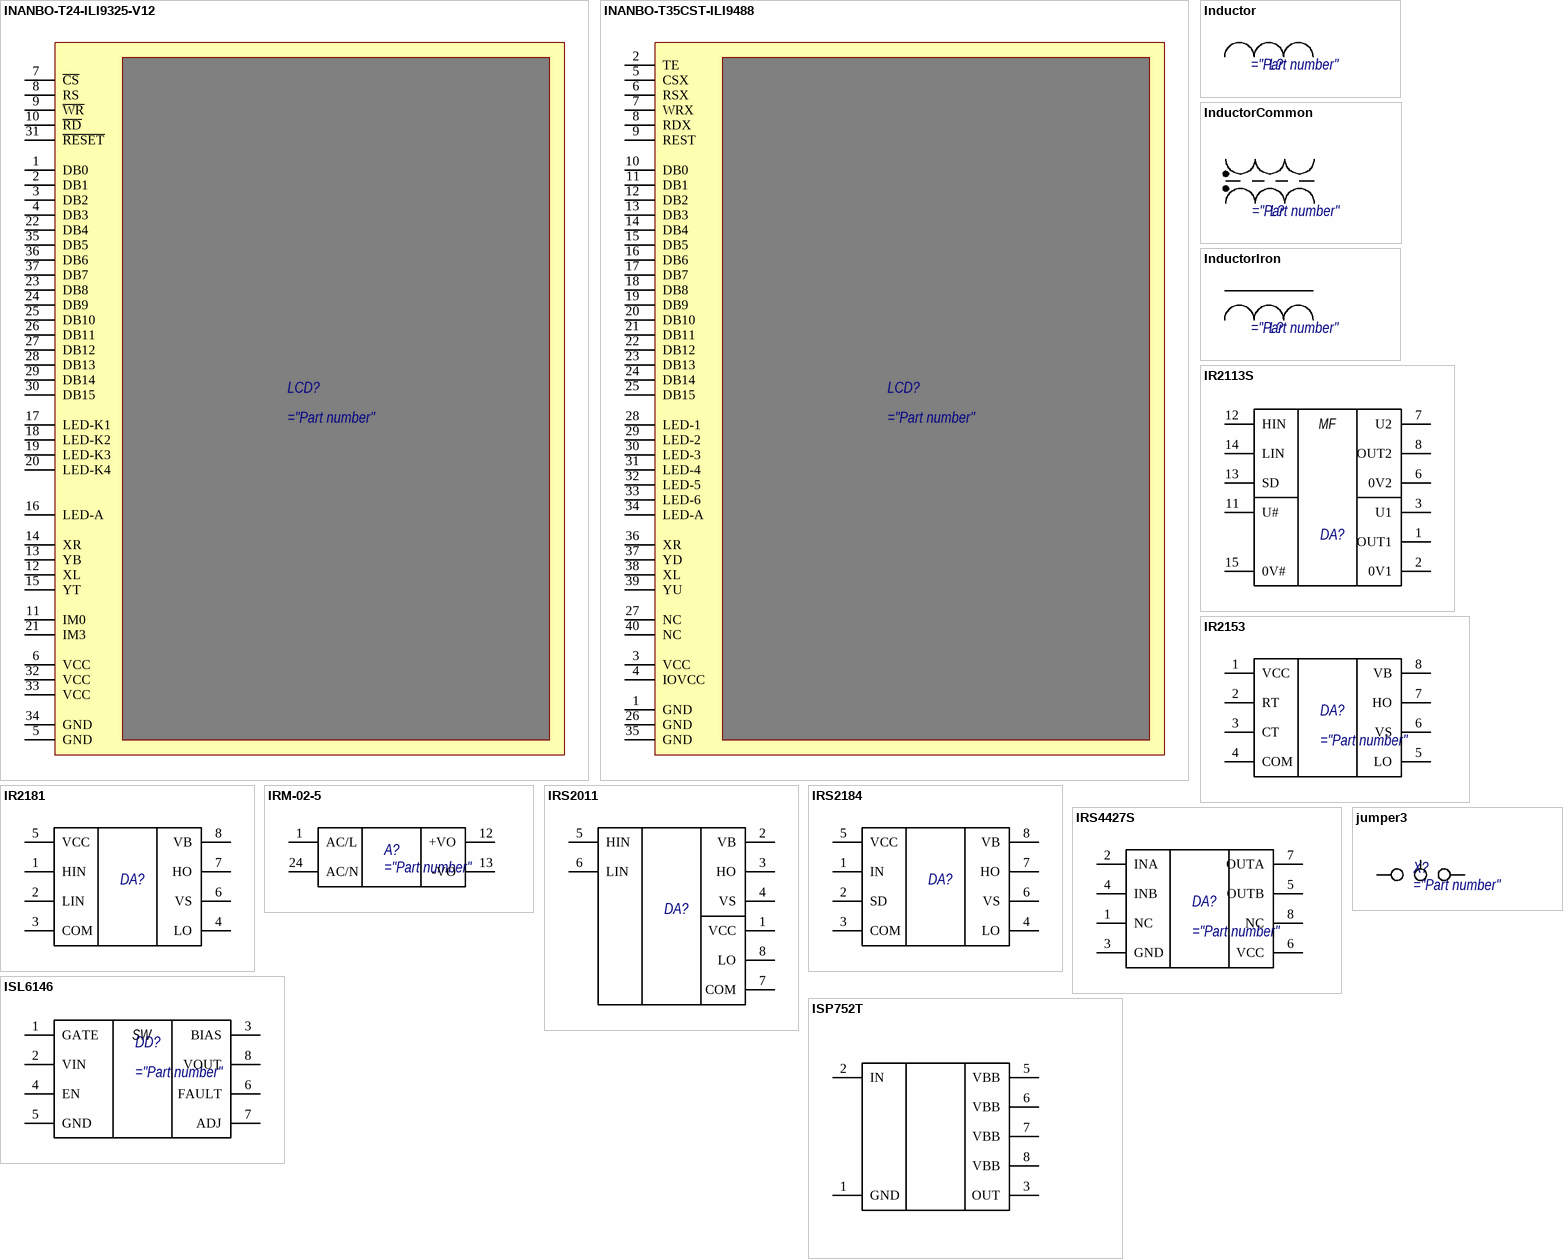
[diagram p8: symbols INANBO-T24-ILI9325-V12 to jumper3]

## INANBO-T24-ILI9325-V12
designator LCD?
pins: 1 DB0, 2 DB1, 3 DB2, 4 DB3, 5 GND, 6 VCC, 7 ~{CS}, 8 RS, 9 ~{WR}, 10 ~{RD}, 11 IM0, 12 XL, 13 YB, 14 XR, 15 YT, 16 LED-A, 17 LED-K1, 18 LED-K2, 19 LED-K3, 20 LED-K4, 21 IM3, 22 DB4, 23 DB8, 24 DB9, 25 DB10, 26 DB11, 27 DB12, 28 DB13, 29 DB14, 30 DB15, 31 ~{RESET}, 32 VCC, 33 VCC, 34 GND, 35 DB5, 36 DB6, 37 DB7

## INANBO-T35CST-ILI9488
designator LCD?
pins: 1 GND, 2 TE, 3 VCC, 4 IOVCC, 5 CSX, 6 RSX, 7 WRX, 8 RDX, 9 REST, 10 DB0, 11 DB1, 12 DB2, 13 DB3, 14 DB4, 15 DB5, 16 DB6, 17 DB7, 18 DB8, 19 DB9, 20 DB10, 21 DB11, 22 DB12, 23 DB13, 24 DB14, 25 DB15, 26 GND, 27 NC, 28 LED-1, 29 LED-2, 30 LED-3, 31 LED-4, 32 LED-5, 33 LED-6, 34 LED-A, 35 GND, 36 XR, 37 YD, 38 XL, 39 YU, 40 NC

## Inductor
designator L?
pins: 1, 2
1 alternate drawing of the same symbol

## InductorCommon
designator L?
pins: 1, 2, 3, 4
1 alternate drawing of the same symbol

## InductorIron
designator L?
pins: 1, 2

## IR2113S
designator DA?
pins: 1 OUT1, 2 0V1, 3 U1, 6 0V2, 7 U2, 8 OUT2, 11 U#, 12 HIN, 13 SD, 14 LIN, 15 0V#
text: MF

## IR2153
designator DA?
pins: 1 VCC, 2 RT, 3 CT, 4 COM, 5 LO, 6 VS, 7 HO, 8 VB

## IR2181
designator DA?
pins: 1 HIN, 2 LIN, 3 COM, 4 LO, 5 VCC, 6 VS, 7 HO, 8 VB

## IRM-02-5
designator A?
pins: 1 AC/L, 12 +VO, 13 -VO, 24 AC/N

## IRS2011
designator DA?
pins: 1 VCC, 2 VB, 3 HO, 4 VS, 5 HIN, 6 LIN, 7 COM, 8 LO

## IRS2184
designator DA?
pins: 1 IN, 2 SD, 3 COM, 4 LO, 5 VCC, 6 VS, 7 HO, 8 VB

## IRS4427S
designator DA?
pins: 1 NC, 2 INA, 3 GND, 4 INB, 5 OUTB, 6 VCC, 7 OUTA, 8 NC

## ISL6146
designator DD?
pins: 1 GATE, 2 VIN, 3 BIAS, 4 EN, 5 GND, 6 FAULT, 7 ADJ, 8 VOUT
text: SW

## ISP752T
designator X?
pins: 1 GND, 2 IN, 3 OUT, 5 VBB, 6 VBB, 7 VBB, 8 VBB

## jumper3
designator X?
pins: 1, 2, 3

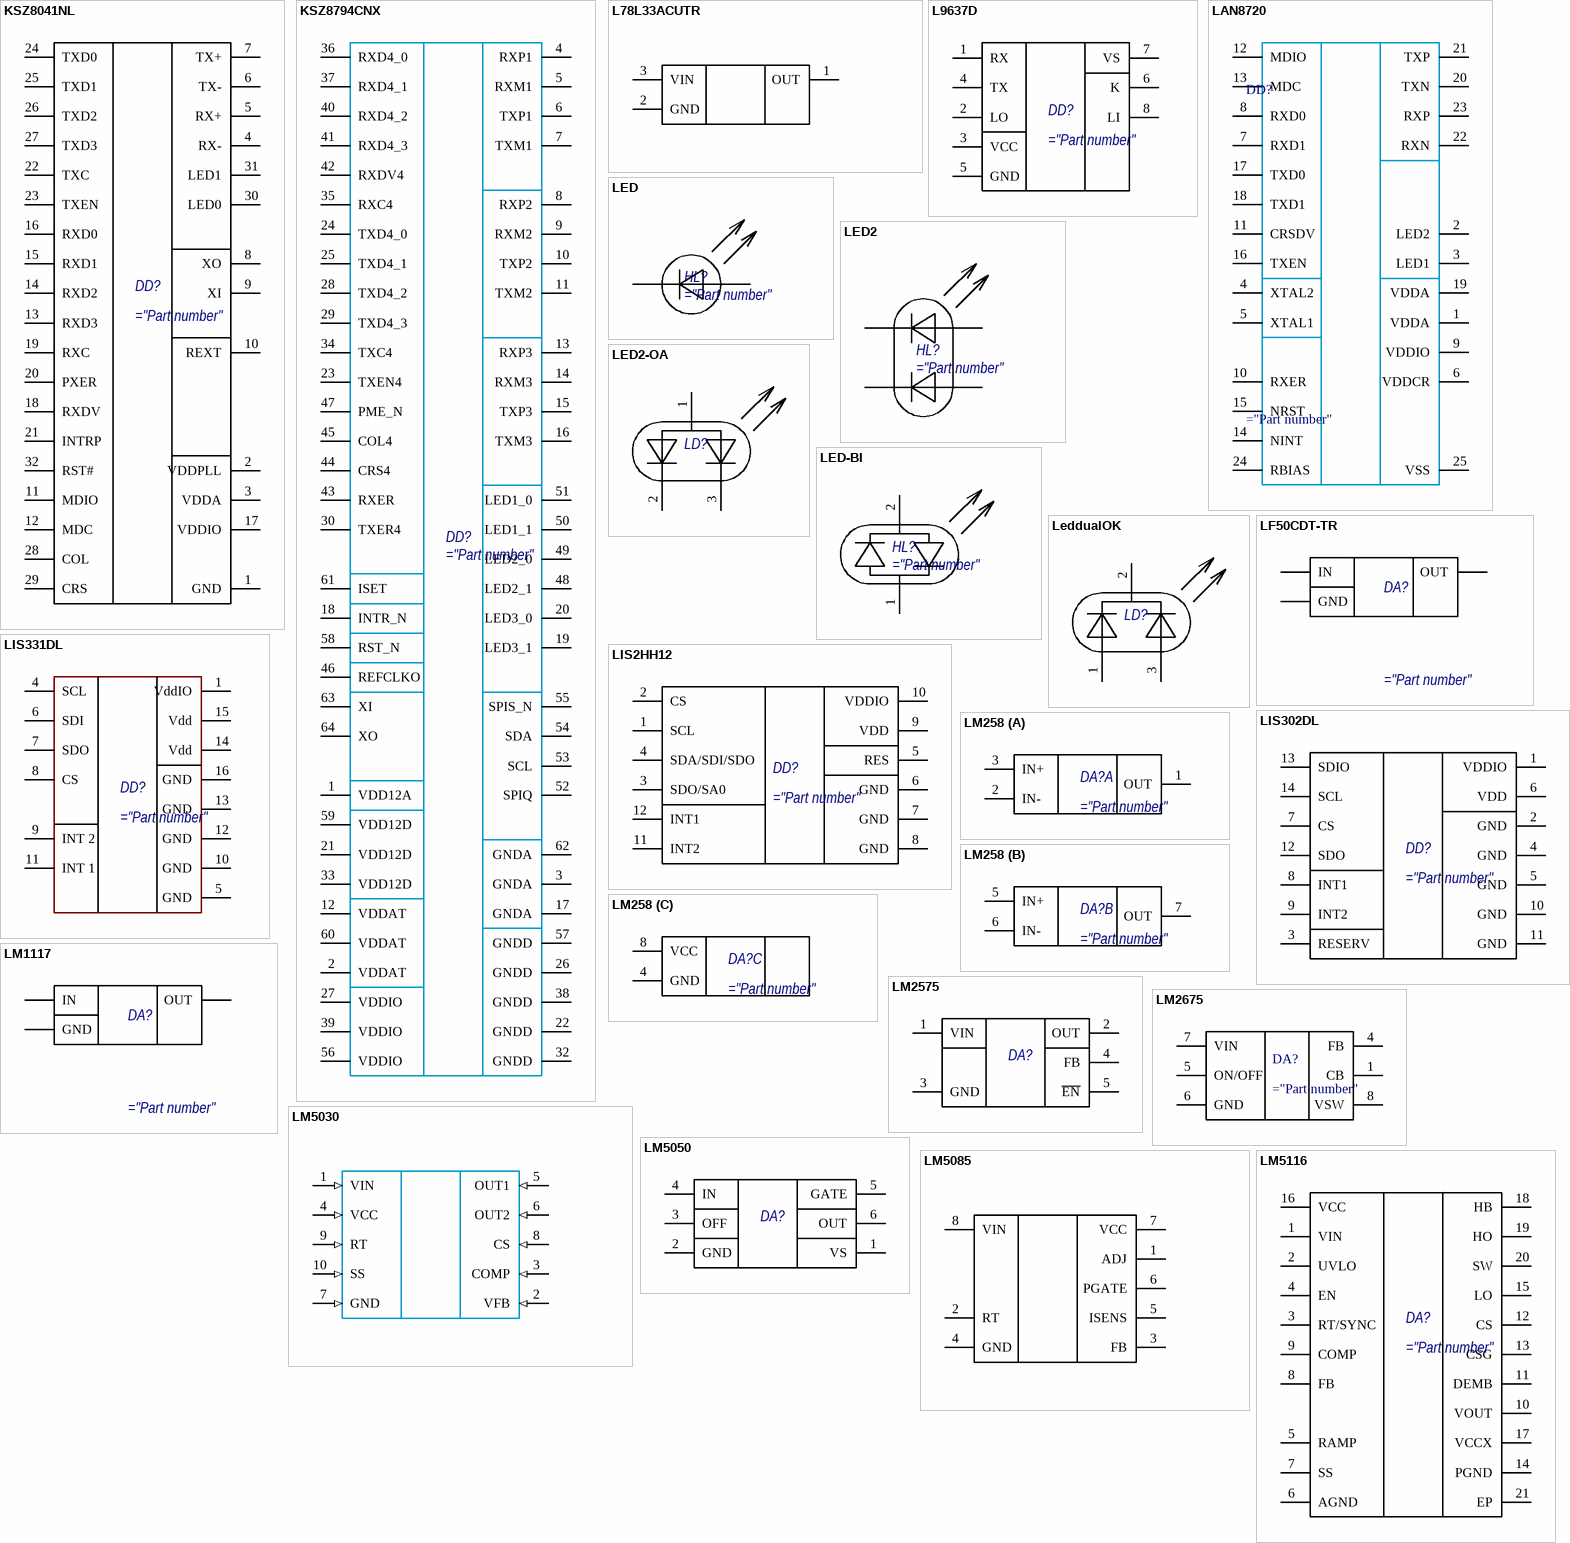
[diagram p9: symbols KSZ8041NL to LM5116]

## KSZ8041NL
designator DD?
pins: 1 GND, 2 VDDPLL, 3 VDDA, 4 RX-, 5 RX+, 6 TX-, 7 TX+, 8 XO, 9 XI, 10 REXT, 11 MDIO, 12 MDC, 13 RXD3, 14 RXD2, 15 RXD1, 16 RXD0, 17 VDDIO, 18 RXDV, 19 RXC, 20 PXER, 21 INTRP, 22 TXC, 23 TXEN, 24 TXD0, 25 TXD1, 26 TXD2, 27 TXD3, 28 COL, 29 CRS, 30 LED0, 31 LED1, 32 RST#

## KSZ8794CNX
designator DD?
pins: 1 VDD12A, 2 VDDAT, 3 GNDA, 4 RXP1, 5 RXM1, 6 TXP1, 7 TXM1, 8 RXP2, 9 RXM2, 10 TXP2, 11 TXM2, 12 VDDAT, 13 RXP3, 14 RXM3, 15 TXP3, 16 TXM3, 17 GNDA, 18 INTR_N, 19 LED3_1, 20 LED3_0, 21 VDD12D, 22 GNDD, 23 TXEN4, 24 TXD4_0, 25 TXD4_1, 26 GNDD, 27 VDDIO, 28 TXD4_2, 29 TXD4_3, 30 TXER4, 32 GNDD, 33 VDD12D, 34 TXC4, 35 RXC4, 36 RXD4_0, 37 RXD4_1, 38 GNDD, 39 VDDIO, 40 RXD4_2, 41 RXD4_3, 42 RXDV4, 43 RXER, 44 CRS4, 45 COL4, 46 REFCLKO, 47 PME_N, 48 LED2_1, 49 LED2_0, 50 LED1_1, 51 LED1_0, 52 SPIQ, 53 SCL, 54 SDA, 55 SPIS_N, 56 VDDIO, 57 GNDD, 58 RST_N, 59 VDD12D, 60 VDDAT, 61 ISET, 62 GNDA, 63 XI, 64 XO

## L78L33ACUTR
designator DA?
pins: 1 OUT, 2 GND, 3 VIN

## L9637D
designator DD?
pins: 1 RX, 2 LO, 3 VCC, 4 TX, 5 GND, 6 K, 7 VS, 8 LI

## LAN8720
designator DD?
pins: 1 VDDA, 2 LED2, 3 LED1, 4 XTAL2, 5 XTAL1, 6 VDDCR, 7 RXD1, 8 RXD0, 9 VDDIO, 10 RXER, 11 CRSDV, 12 MDIO, 13 MDC, 14 NINT, 15 NRST, 16 TXEN, 17 TXD0, 18 TXD1, 19 VDDA, 20 TXN, 21 TXP, 22 RXN, 23 RXP, 24 RBIAS, 25 VSS

## LED
designator HL?
pins: 1 A, 2 C
1 alternate drawing of the same symbol

## LED2
designator HL?
pins: 1 A, 2 C, 3 A, 4 C
1 alternate drawing of the same symbol

## LED2-OA
designator LD?
pins: 1, 2, 3

## LED-BI
designator HL?
pins: 1, 2

## LeddualOK
designator LD?
pins: 1, 2, 3

## LF50CDT-TR
designator DA?
pins: 1 IN, 2 GND, 3 OUT

## LIS2HH12
designator DD?
pins: 1 SCL, 2 CS, 3 SDO/SA0, 4 SDA/SDI/SDO, 5 RES, 6 GND, 7 GND, 8 GND, 9 VDD, 10 VDDIO, 11 INT2, 12 INT1

## LIS302DL
designator DD?
pins: 1 VDDIO, 2 GND, 3 RESERV, 4 GND, 5 GND, 6 VDD, 7 CS, 8 INT1, 9 INT2, 10 GND, 11 GND, 12 SDO, 13 SDIO, 14 SCL

## LIS331DL
designator DD?
pins: 1 VddIO, 4 SCL, 5 GND, 6 SDI, 7 SDO, 8 CS, 9 INT 2, 10 GND, 11 INT 1, 12 GND, 13 GND, 14 Vdd, 15 Vdd, 16 GND

## LM258
designator DA?
part A pins: 1 OUT, 2 IN-, 3 IN+
part B pins: 5 IN+, 6 IN-, 7 OUT
part C pins: 4 GND, 8 VCC

## LM1117
designator DA?
pins: 1 GND, 2 OUT, 3 IN

## LM2575
designator DA?
pins: 1 VIN, 2 OUT, 3 GND, 4 FB, 5 ~{EN}

## LM2675
designator DA?
pins: 1 CB, 4 FB, 5 ON/OFF, 6 GND, 7 VIN, 8 VSW

## LM5030
designator DA?
pins: 1 VIN (in) "Информационный вход Х6", 2 VFB (in) "Информационный вход Х6", 3 COMP (in) "Информационный вход Х6", 4 VCC (in) "Информационный вход Х6", 5 OUT1 (in) "Информационный вход Х6", 6 OUT2 (in) "Информационный вход Х6", 7 GND (in) "Информационный вход Х6", 8 CS (in) "Информационный вход Х6", 9 RT (in) "Информационный вход Х6", 10 SS (in) "Информационный вход Х6"

## LM5050
designator DA?
pins: 1 VS, 2 GND, 3 OFF, 4 IN, 5 GATE, 6 OUT

## LM5085
designator DA?
pins: 1 ADJ, 2 RT, 3 FB, 4 GND, 5 ISENS, 6 PGATE, 7 VCC, 8 VIN

## LM5116
designator DA?
pins: 1 VIN, 2 UVLO, 3 RT/SYNC, 4 EN, 5 RAMP, 6 AGND, 7 SS, 8 FB, 9 COMP, 10 VOUT, 11 DEMB, 12 CS, 13 CSG, 14 PGND, 15 LO, 16 VCC, 17 VCCX, 18 HB, 19 HO, 20 SW, 21 EP

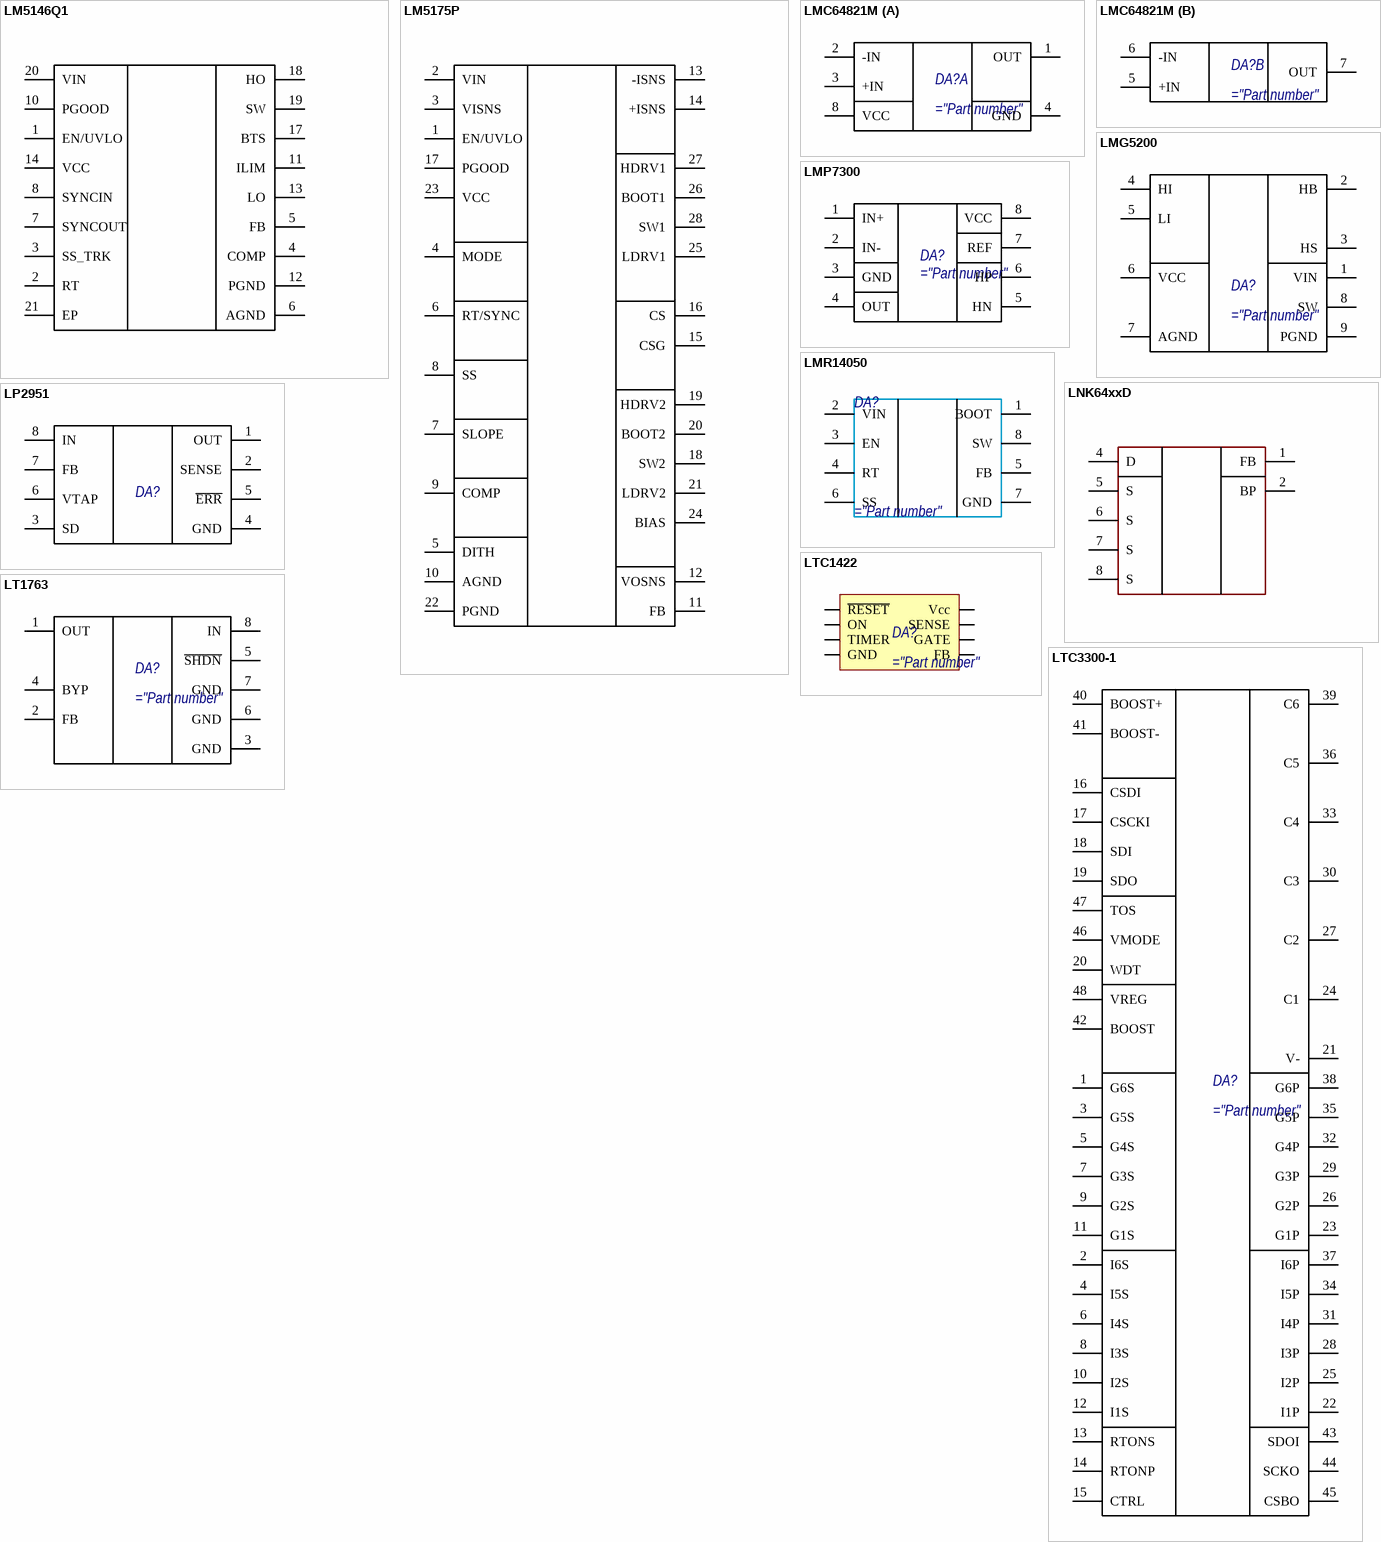
[diagram p10: symbols LM5146Q1 to LTC3300-1]

## LM5146Q1
designator DA?
pins: 1 EN/UVLO, 2 RT, 3 SS_TRK, 4 COMP, 5 FB, 6 AGND, 7 SYNCOUT, 8 SYNCIN, 10 PGOOD, 11 ILIM, 12 PGND, 13 LO, 14 VCC, 17 BTS, 18 HO, 19 SW, 20 VIN, 21 EP

## LM5175P
designator DA?
pins: 1 EN/UVLO, 2 VIN, 3 VISNS, 4 MODE, 5 DITH, 6 RT/SYNC, 7 SLOPE, 8 SS, 9 COMP, 10 AGND, 11 FB, 12 VOSNS, 13 -ISNS, 14 +ISNS, 15 CSG, 16 CS, 17 PGOOD, 18 SW2, 19 HDRV2, 20 BOOT2, 21 LDRV2, 22 PGND, 23 VCC, 24 BIAS, 25 LDRV1, 26 BOOT1, 27 HDRV1, 28 SW1

## LMC64821M
designator DA?
part A pins: 1 OUT, 2 -IN, 3 +IN, 4 GND, 8 VCC
part B pins: 5 +IN, 6 -IN, 7 OUT

## LMG5200
designator DA?
pins: 1 VIN, 2 HB, 3 HS, 4 HI, 5 LI, 6 VCC, 7 AGND, 8 SW, 9 PGND

## LMP7300
designator DA?
pins: 1 IN+, 2 IN-, 3 GND, 4 OUT, 5 HN, 6 HP, 7 REF, 8 VCC

## LMR14050
designator DA?
pins: 1 BOOT, 2 VIN, 3 EN, 4 RT, 5 FB, 6 SS, 7 GND, 8 SW

## LNK64xxD
designator DA?
pins: 1 FB, 2 BP, 4 D, 5 S, 6 S, 7 S, 8 S

## LP2951
designator DA?
pins: 1 OUT, 2 SENSE, 3 SD, 4 GND, 5 ~{ERR}, 6 VTAP, 7 FB, 8 IN

## LT1763
designator DA?
pins: 1 OUT, 2 FB, 3 GND, 4 BYP, 5 ~{SHDN}, 6 GND, 7 GND, 8 IN

## LTC1422
designator DA?
pins: 1 ~{RESET}, 2 ON, 3 TIMER, 4 GND, 5 FB, 6 GATE, 7 SENSE, 8 Vcc

## LTC3300-1
designator DA?
pins: 1 G6S, 2 I6S, 3 G5S, 4 I5S, 5 G4S, 6 I4S, 7 G3S, 8 I3S, 9 G2S, 10 I2S, 11 G1S, 12 I1S, 13 RTONS, 14 RTONP, 15 CTRL, 16 CSDI, 17 CSCKI, 18 SDI, 19 SDO, 20 WDT, 21 V-, 22 I1P, 23 G1P, 24 C1, 25 I2P, 26 G2P, 27 C2, 28 I3P, 29 G3P, 30 C3, 31 I4P, 32 G4P, 33 C4, 34 I5P, 35 G5P, 36 C5, 37 I6P, 38 G6P, 39 C6, 40 BOOST+, 41 BOOST-, 42 BOOST, 43 SDOI, 44 SCKO, 45 CSBO, 46 VMODE, 47 TOS, 48 VREG

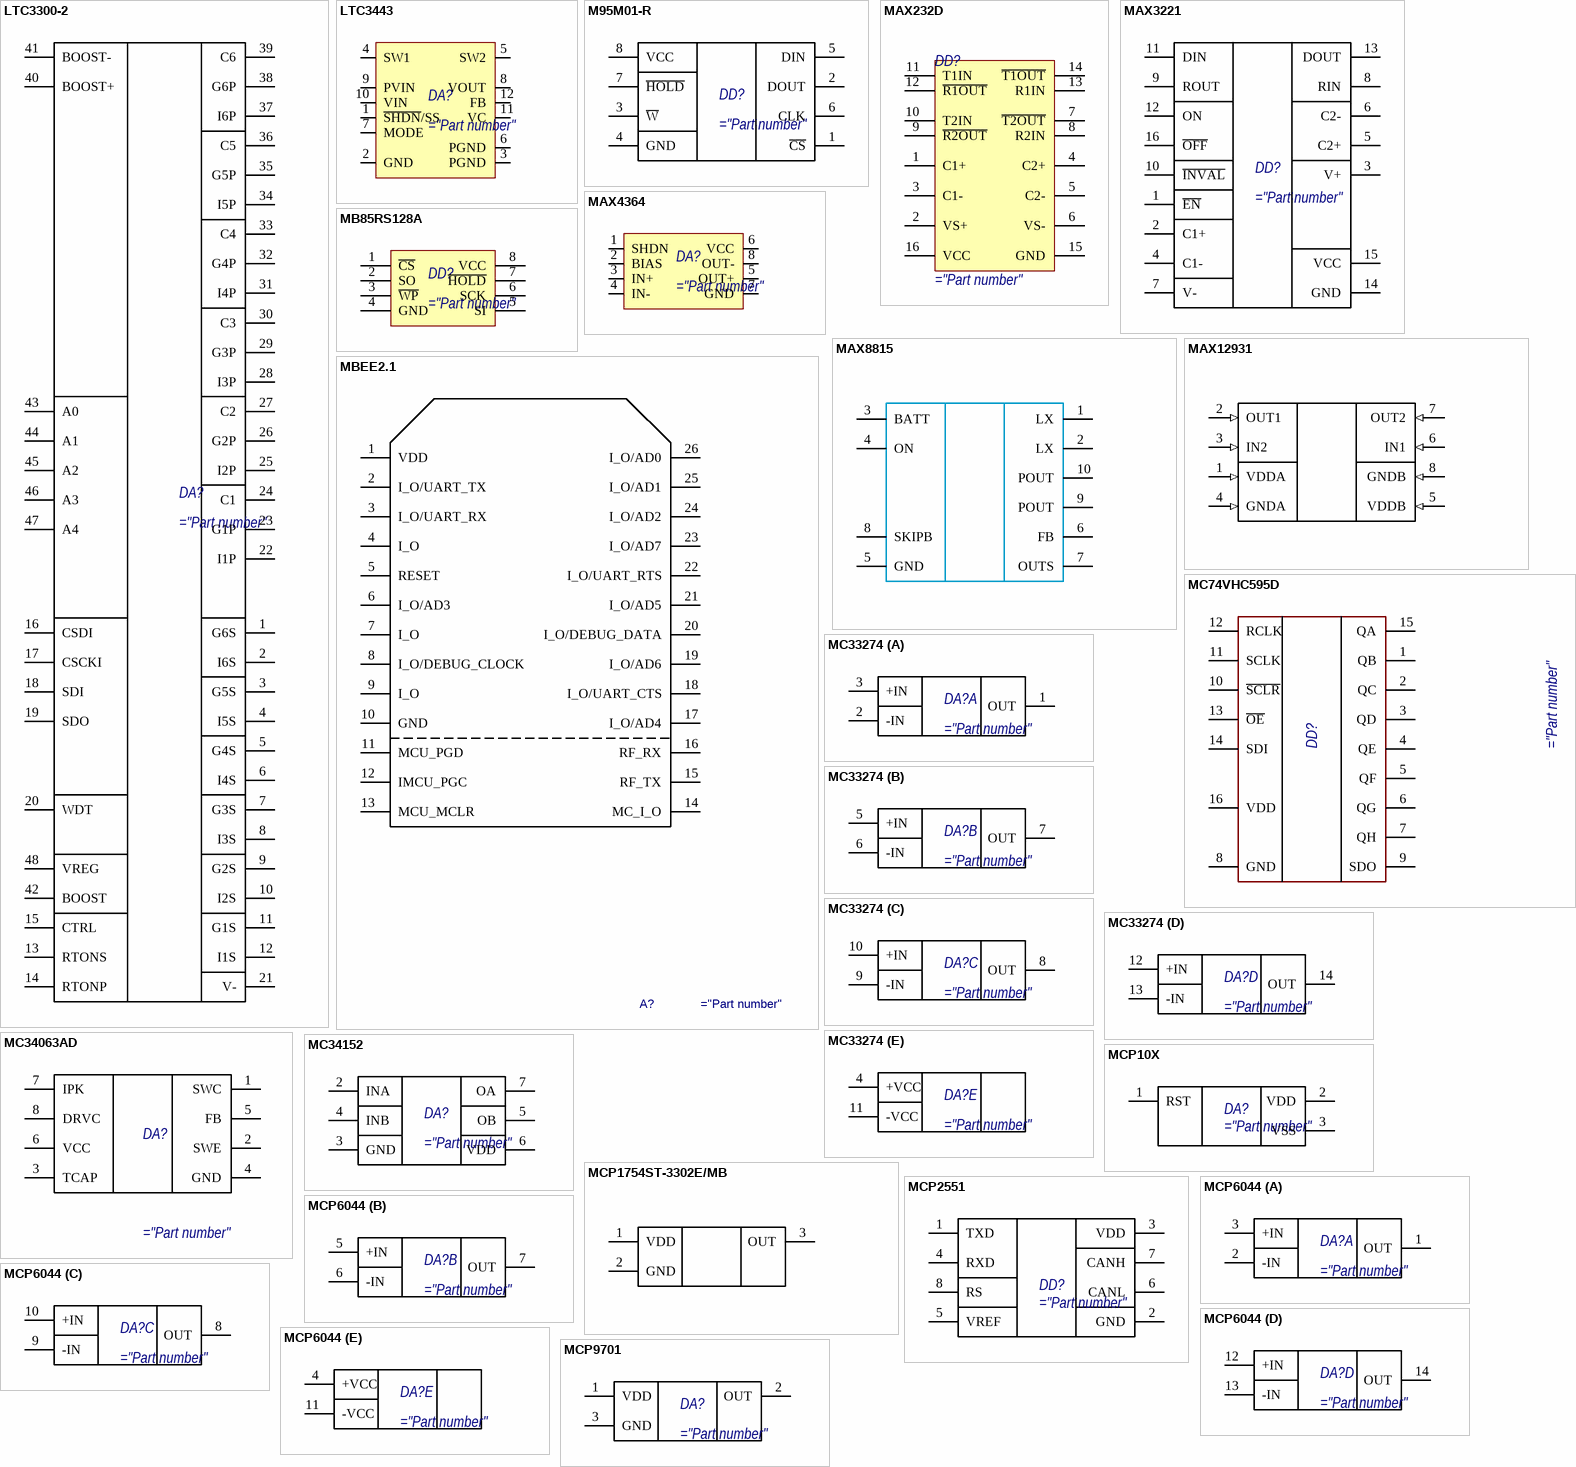
[diagram p11: symbols LTC3300-2 to MCP9701]

## LTC3300-2
designator DA?
pins: 1 G6S, 2 I6S, 3 G5S, 4 I5S, 5 G4S, 6 I4S, 7 G3S, 8 I3S, 9 G2S, 10 I2S, 11 G1S, 12 I1S, 13 RTONS, 14 RTONP, 15 CTRL, 16 CSDI, 17 CSCKI, 18 SDI, 19 SDO, 20 WDT, 21 V-, 22 I1P, 23 G1P, 24 C1, 25 I2P, 26 G2P, 27 C2, 28 I3P, 29 G3P, 30 C3, 31 I4P, 32 G4P, 33 C4, 34 I5P, 35 G5P, 36 C5, 37 I6P, 38 G6P, 39 C6, 40 BOOST+, 41 BOOST-, 42 BOOST, 43 A0, 44 A1, 45 A2, 46 A3, 47 A4, 48 VREG

## LTC3443
designator DA?
pins: 1 ~{SHDN}/SS, 2 GND, 3 PGND, 4 SW1, 5 SW2, 6 PGND, 7 MODE, 8 VOUT, 9 PVIN, 10 VIN, 11 VC, 12 FB

## M95M01-R
designator DD?
pins: 1 ~{CS}, 2 DOUT, 3 ~{W}, 4 GND, 5 DIN, 6 CLK, 7 ~{HOLD}, 8 VCC

## MAX232D
designator DD?
pins: 1 C1+, 2 VS+, 3 C1-, 4 C2+, 5 C2-, 6 VS-, 7 ~{T2OUT}, 8 R2IN, 9 ~{R2OUT}, 10 T2IN, 11 T1IN, 12 ~{R1OUT}, 13 R1IN, 14 ~{T1OUT}, 15 GND, 16 VCC

## MAX3221
designator DD?
pins: 1 ~{EN}, 2 C1+, 3 V+, 4 C1-, 5 C2+, 6 C2-, 7 V-, 8 RIN, 9 ROUT, 10 ~{INVAL}, 11 DIN, 12 ON, 13 DOUT, 14 GND, 15 VCC, 16 ~{OFF}

## MAX4364
designator DA?
pins: 1 SHDN, 2 BIAS, 3 IN+, 4 IN-, 5 OUT+, 6 VCC, 7 GND, 8 OUT-

## MAX8815
designator DA?
pins: 1 LX, 2 LX, 3 BATT, 4 ON, 5 GND, 6 FB, 7 OUTS, 8 SKIPB, 9 POUT, 10 POUT

## MAX12931
designator DA?
pins: 1 VDDA (in), 2 OUT1 (in), 3 IN2 (in), 4 GNDA (in), 5 VDDB (in), 6 IN1 (in), 7 OUT2 (in), 8 GNDB (in)

## MB85RS128A
designator DD?
pins: 1 ~{CS}, 2 SO, 3 ~{WP}, 4 GND, 5 SI, 6 SCK, 7 ~{HOLD}, 8 VCC

## MBEE2.1
designator A?
Value: *
pins: 1 VDD, 2 I_O/UART_TX, 3 I_O/UART_RX, 4 I_O, 5 RESET, 6 I_O/AD3, 7 I_O, 8 I_O/DEBUG_CLOCK, 9 I_O, 10 GND, 11 MCU_PGD, 12 IMCU_PGC, 13 MCU_MCLR, 14 MC_I_O, 15 RF_TX, 16 RF_RX, 17 I_O/AD4, 18 I_O/UART_CTS, 19 I_O/AD6, 20 I_O/DEBUG_DATA, 21 I_O/AD5, 22 I_O/UART_RTS, 23 I_O/AD7, 24 I_O/AD2, 25 I_O/AD1, 26 I_O/AD0

## MC74VHC595D
designator DD?
pins: 1 QB, 2 QC, 3 QD, 4 QE, 5 QF, 6 QG, 7 QH, 8 GND, 9 SDO, 10 ~{SCLR}, 11 SCLK, 12 RCLK, 13 ~{OE}, 14 SDI, 15 QA, 16 VDD

## MC33274
designator DA?
part A pins: 1 OUT, 2 -IN, 3 +IN
part B pins: 5 +IN, 6 -IN, 7 OUT
part C pins: 8 OUT, 9 -IN, 10 +IN
part D pins: 12 +IN, 13 -IN, 14 OUT
part E pins: 4 +VCC, 11 -VCC

## MC34063AD
designator DA?
pins: 1 SWC, 2 SWE, 3 TCAP, 4 GND, 5 FB, 6 VCC, 7 IPK, 8 DRVC

## MC34152
designator DA?
pins: 2 INA, 3 GND, 4 INB, 5 OB, 6 VDD, 7 OA

## MCP10X
designator DA?
pins: 1 RST, 2 VDD, 3 VSS

## MCP1754ST-3302E/MB
designator DA?
pins: 1 VDD, 2 GND, 3 OUT

## MCP2551
designator DD?
pins: 1 TXD, 2 GND, 3 VDD, 4 RXD, 5 VREF, 6 CANL, 7 CANH, 8 RS

## MCP6044
designator DA?
part A pins: 1 OUT, 2 -IN, 3 +IN
part B pins: 5 +IN, 6 -IN, 7 OUT
part C pins: 8 OUT, 9 -IN, 10 +IN
part D pins: 12 +IN, 13 -IN, 14 OUT
part E pins: 4 +VCC, 11 -VCC

## MCP9701
designator DA?
pins: 1 VDD, 2 OUT, 3 GND

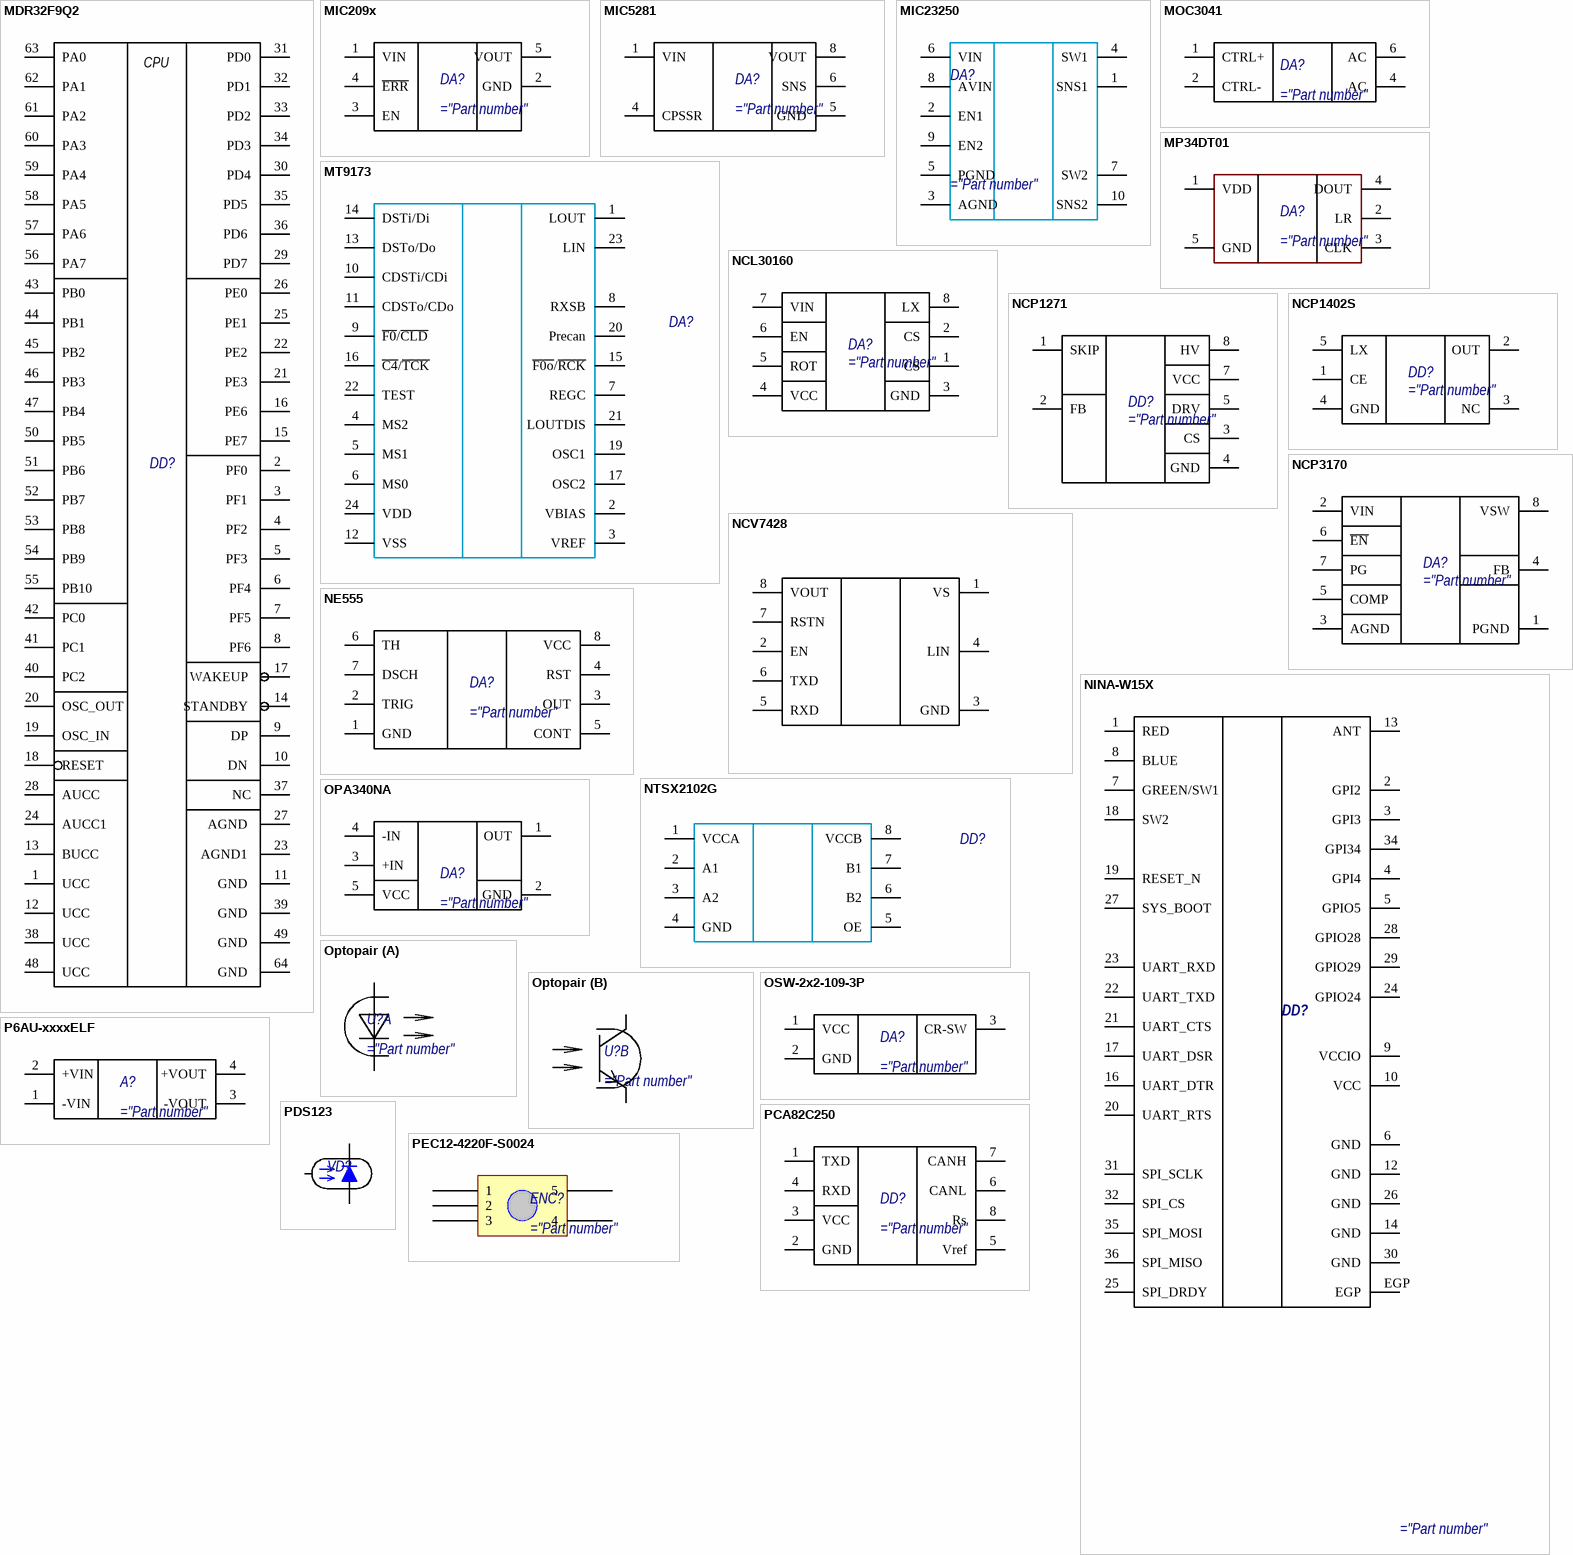
[diagram p12: symbols MDR32F9Q2 to PEC12-4220F-S0024]

## MDR32F9Q2
designator DD?
pins: 1 UCC , 2 PF0 , 3 PF1 , 4 PF2 , 5 PF3 , 6 PF4, 7 PF5, 8 PF6, 9 DP , 10 DN , 11 GND , 12 UCC , 13 BUCC , 14 STANDBY , 15 PE7 , 16 PE6 , 17 WAKEUP , 18 RESET , 19 OSC_IN , 20 OSC_OUT , 21 PE3 , 22 PE2 , 23 AGND1 , 24 AUCC1 , 25 PE1 , 26 PE0 , 27 AGND , 28 AUCC , 29 PD7 , 30 PD4, 31 PD0, 32 PD1, 33 PD2, 34 PD3, 35 PD5 , 36 PD6 , 37 NC, 38 UCC , 39 GND , 40 PC2 , 41 PC1 , 42 PC0 , 43 PB0, 44 PB1, 45 PB2, 46 PB3, 47 PB4, 48 UCC , 49 GND , 50 PB5 , 51 PB6 , 52 PB7 , 53 PB8 , 54 PB9 , 55 PB10 , 56 PA7 , 57 PA6 , 58 PA5 , 59 PA4 , 60 PA3 , 61 PA2 , 62 PA1 , 63 PA0 , 64 GND 
1 alternate drawing of the same symbol
text: CPU

## MIC209x
designator DA?
pins: 1 VIN, 2 GND, 3 EN, 4 ~{ERR}, 5 VOUT

## MIC5281
designator DA?
pins: 1 VIN, 4 CPSSR, 5 GND, 6 SNS, 8 VOUT

## MIC23250
designator DA?
pins: 1 SNS1 "Sense 1 (Input): Error amplifier input. Connect to feedback resistor network to set output 1 voltage.", 2 EN1 "Enable 1 (Input): Logic low will shut down output 1. Logic high powers up output 1. Do not leave unconnected.", 3 AGND "Analog Ground. Must be connected externally to PGND.", 4 SW1 "Switch Node 1 (Output): Internal power MOSFET output.", 5 PGND "Power Ground.", 6 VIN "Supply Voltage (Power Input): Requires close bypass capacitor to PGND.", 7 SW2 "Switch Node 2 (Output): Internal power MOSFET output.", 8 AVIN "Supply Voltage (Power Input): Analog control circuitry. Connect to VIN.", 9 EN2 "Enable 2 (Input): Logic low will shut down output 2. Logic high powers up output 2. Do not leave unconnected.", 10 SNS2 "Sense 2 (Input): Error amplifier input. Connect to feedback resistor network to set output 2 voltage."

## MOC3041
designator DA?
pins: 1 CTRL+, 2 CTRL-, 4 AC, 6 AC

## MP34DT01
designator DA?
pins: 1 VDD, 2 LR, 3 CLK, 4 DOUT, 5 GND

## MT9173
designator DA?
pins: 1 LOUT, 2 VBIAS, 3 VREF, 4 MS2, 5 MS1, 6 MS0, 7 REGC, 8 RXSB, 9 ~{F0}/~{CLD}, 10 CDSTi/CDi, 11 CDSTo/CDo, 12 VSS, 13 DSTo/Do, 14 DSTi/Di, 15 ~{F0o}/~{RCK}, 16 ~{C4}/~{TCK}, 17 OSC2, 19 OSC1, 20 Precan, 21 LOUTDIS, 22 TEST, 23 LIN, 24 VDD

## NCL30160
designator DA?
pins: 1 CS, 2 CS, 3 GND, 4 VCC, 5 ROT, 6 EN, 7 VIN, 8 LX

## NCP1271
designator DD?
pins: 1 SKIP, 2 FB, 3 CS, 4 GND, 5 DRV, 7 VCC, 8 HV

## NCP1402S
designator DD?
pins: 1 CE, 2 OUT, 3 NC, 4 GND, 5 LX

## NCP3170
designator DA?
pins: 1 PGND, 2 VIN, 3 AGND, 4 FB, 5 COMP, 6 ~{EN}, 7 PG, 8 VSW

## NCV7428
designator DD?
pins: 1 VS, 2 EN, 3 GND, 4 LIN, 5 RXD, 6 TXD, 7 RSTN, 8 VOUT

## NE555
designator DA?
pins: 1 GND, 2 TRIG, 3 OUT, 4 RST, 5 CONT, 6 TH, 7 DSCH, 8 VCC

## NINA-W15X
designator DD?
pins: 1 RED, 2 GPI2, 3 GPI3, 4 GPI4, 5 GPIO5, 6 GND, 7 GREEN/SW1, 8 BLUE, 9 VCCIO, 10 VCC, 12 GND, 13 ANT, 14 GND, 16 UART_DTR, 17 UART_DSR, 18 SW2, 19 RESET_N, 20 UART_RTS, 21 UART_CTS, 22 UART_TXD, 23 UART_RXD, 24 GPIO24, 25 SPI_DRDY, 26 GND, 27 SYS_BOOT, 28 GPIO28, 29 GPIO29, 30 GND, 31 SPI_SCLK, 32 SPI_CS, 34 GPI34, 35 SPI_MOSI, 36 SPI_MISO, EGP
1 alternate drawing of the same symbol

## NTSX2102G
designator DD?
pins: 1 VCCA, 2 A1, 3 A2, 4 GND, 5 OE, 6 B2, 7 B1, 8 VCCB

## OPA340NA
designator DA?
pins: 1 OUT, 2 GND, 3 +IN, 4 -IN, 5 VCC

## Optopair
designator U?
part A pins: 1, 2
part B pins: 3, 4
3 alternate drawings of the same symbol

## OSW-2x2-109-3P
designator DA?
pins: 1 VCC, 2 GND, 3 CR-SW

## P6AU-xxxxELF
designator A?
pins: 1 -VIN, 2 +VIN, 3 -VOUT, 4 +VOUT

## PCA82C250
designator DD?
pins: 1 TXD, 2 GND, 3 VCC, 4 RXD, 5 Vref, 6 CANL, 7 CANH, 8 Rs

## PDS123
designator VD?
pins: 1, 2, 3

## PEC12-4220F-S0024
designator ENC?
pins: 1, 2, 3, 4, 5
1 alternate drawing of the same symbol

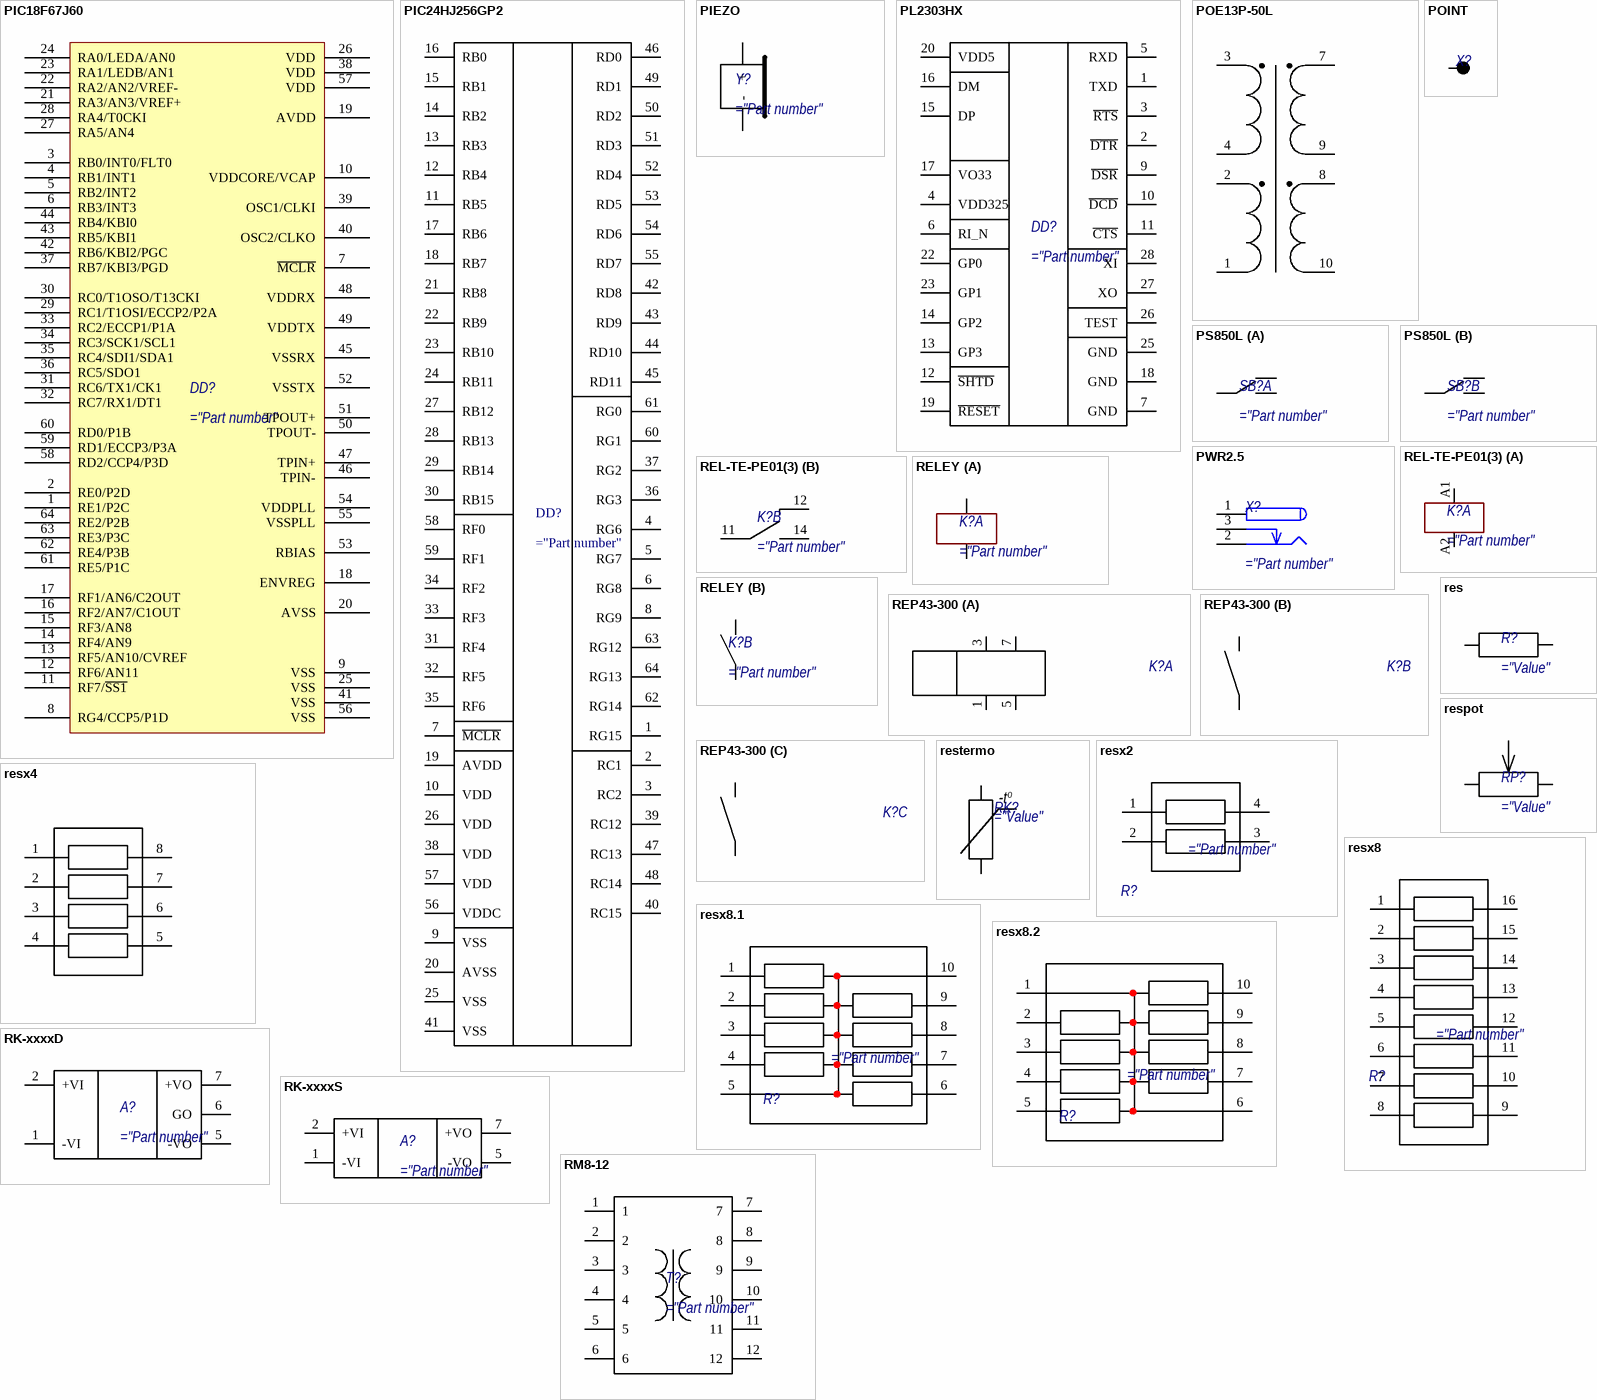
[diagram p13: symbols PIC18F67J60 to RM8-12]

## PIC18F67J60
designator DD?
pins: 1 RE1/P2C, 2 RE0/P2D, 3 RB0/INT0/FLT0, 4 RB1/INT1, 5 RB2/INT2, 6 RB3/INT3, 7 ~{MCLR}, 8 RG4/CCP5/P1D, 9 VSS, 10 VDDCORE/VCAP, 11 RF7/~{SS1}, 12 RF6/AN11, 13 RF5/AN10/CVREF, 14 RF4/AN9, 15 RF3/AN8, 16 RF2/AN7/C1OUT, 17 RF1/AN6/C2OUT, 18 ENVREG, 19 AVDD, 20 AVSS, 21 RA3/AN3/VREF+, 22 RA2/AN2/VREF-, 23 RA1/LEDB/AN1, 24 RA0/LEDA/AN0, 25 VSS, 26 VDD, 27 RA5/AN4, 28 RA4/T0CKI, 29 RC1/T1OSI/ECCP2/P2A, 30 RC0/T1OSO/T13CKI, 31 RC6/TX1/CK1, 32 RC7/RX1/DT1, 33 RC2/ECCP1/P1A, 34 RC3/SCK1/SCL1, 35 RC4/SDI1/SDA1, 36 RC5/SDO1, 37 RB7/KBI3/PGD, 38 VDD, 39 OSC1/CLKI, 40 OSC2/CLKO, 41 VSS, 42 RB6/KBI2/PGC, 43 RB5/KBI1, 44 RB4/KBI0, 45 VSSRX, 46 TPIN-, 47 TPIN+, 48 VDDRX, 49 VDDTX, 50 TPOUT-, 51 TPOUT+, 52 VSSTX, 53 RBIAS, 54 VDDPLL, 55 VSSPLL, 56 VSS, 57 VDD, 58 RD2/CCP4/P3D, 59 RD1/ECCP3/P3A, 60 RD0/P1B, 61 RE5/P1C, 62 RE4/P3B, 63 RE3/P3C, 64 RE2/P2B

## PIC24HJ256GP2
designator DD?
pins: 1 RG15, 2 RC1, 3 RC2, 4 RG6, 5 RG7, 6 RG8, 7 ~{MCLR}, 8 RG9, 9 VSS, 10 VDD, 11 RB5, 12 RB4, 13 RB3, 14 RB2, 15 RB1, 16 RB0, 17 RB6, 18 RB7, 19 AVDD, 20 AVSS, 21 RB8, 22 RB9, 23 RB10, 24 RB11, 25 VSS, 26 VDD, 27 RB12, 28 RB13, 29 RB14, 30 RB15, 31 RF4, 32 RF5, 33 RF3, 34 RF2, 35 RF6, 36 RG3, 37 RG2, 38 VDD, 39 RC12, 40 RC15, 41 VSS, 42 RD8, 43 RD9, 44 RD10, 45 RD11, 46 RD0, 47 RC13, 48 RC14, 49 RD1, 50 RD2, 51 RD3, 52 RD4, 53 RD5, 54 RD6, 55 RD7, 56 VDDC, 57 VDD, 58 RF0, 59 RF1, 60 RG1, 61 RG0, 62 RG14, 63 RG12, 64 RG13

## PIEZO
designator Y?
pins: 1 -, 2 +

## PL2303HX
designator DD?
pins: 1 TXD, 2 ~{DTR}, 3 ~{RTS}, 4 VDD325, 5 RXD, 6 RI_N, 7 GND, 9 ~{DSR}, 10 ~{DCD}, 11 ~{CTS}, 12 ~{SHTD}, 13 GP3, 14 GP2, 15 DP, 16 DM, 17 VO33, 18 GND, 19 ~{RESET}, 20 VDD5, 22 GP0, 23 GP1, 25 GND, 26 TEST, 27 XO, 28 XI
1 alternate drawing of the same symbol

## POE13P-50L
designator DA?
pins: 1, 2, 3, 4, 7, 8, 9, 10

## POINT
designator X?  (no BOM)
pins: 1
2 alternate drawings of the same symbol

## PS850L
designator SB?
part A pins: 1, 2, 3
part B pins: 4, 5, 6

## PWR2.5
designator X?
pins: 1 (power), 2 (power), 3 (power)
1 alternate drawing of the same symbol

## REL-TE-PE01(3)
designator K?
part A pins: A1 1, A2 2
part B pins: 11, 12, 14
1 alternate drawing of the same symbol

## RELEY
designator K?
part A pins: 1, 2
part B pins: 3, 4

## REP43-300
designator K?
part A pins: 1 VDD, 3 VDD, 5 VDD, 7 VDD
part B pins: 21, 22
part C pins: 23, 24

## res
designator R?
signal-integrity model Res
pins: 1, 2

## respot
designator RP?
pins: 1, 2, 3
1 alternate drawing of the same symbol

## restermo
designator RK?
pins: 1, 2
text: o; -t

## resx2
designator R?
pins: 1, 2, 3, 4

## resx4
designator R?
pins: 1, 2, 3, 4, 5, 6, 7, 8

## resx8
designator R?
pins: 1, 2, 3, 4, 5, 6, 7, 8, 9, 10, 11, 12, 13, 14, 15, 16

## resx8.1
designator R?
pins: 1, 2, 3, 4, 5, 6, 7, 8, 9, 10
1 alternate drawing of the same symbol

## resx8.2
designator R?
pins: 1, 2, 3, 4, 5, 6, 7, 8, 9, 10
1 alternate drawing of the same symbol

## RK-xxxxD
designator A?
pins: 1 -VI, 2 +VI, 5 -VO, 6 GO, 7 +VO

## RK-xxxxS
designator A?
pins: 1 -VI, 2 +VI, 5 -VO, 7 +VO

## RM8-12
designator T?
pins: 1 "PA1/USART2_RTS/ADC1_IN1/TIM2_CH2", 2 "PA1/USART2_RTS/ADC1_IN1/TIM2_CH2", 3 "PA1/USART2_RTS/ADC1_IN1/TIM2_CH2", 4 "PA1/USART2_RTS/ADC1_IN1/TIM2_CH2", 5 "PA1/USART2_RTS/ADC1_IN1/TIM2_CH2", 6 "PA1/USART2_RTS/ADC1_IN1/TIM2_CH2", 7 "PA1/USART2_RTS/ADC1_IN1/TIM2_CH2", 8 "PA1/USART2_RTS/ADC1_IN1/TIM2_CH2", 9 "PA1/USART2_RTS/ADC1_IN1/TIM2_CH2", 10 "PA1/USART2_RTS/ADC1_IN1/TIM2_CH2", 11 "PA1/USART2_RTS/ADC1_IN1/TIM2_CH2", 12 "PA1/USART2_RTS/ADC1_IN1/TIM2_CH2"

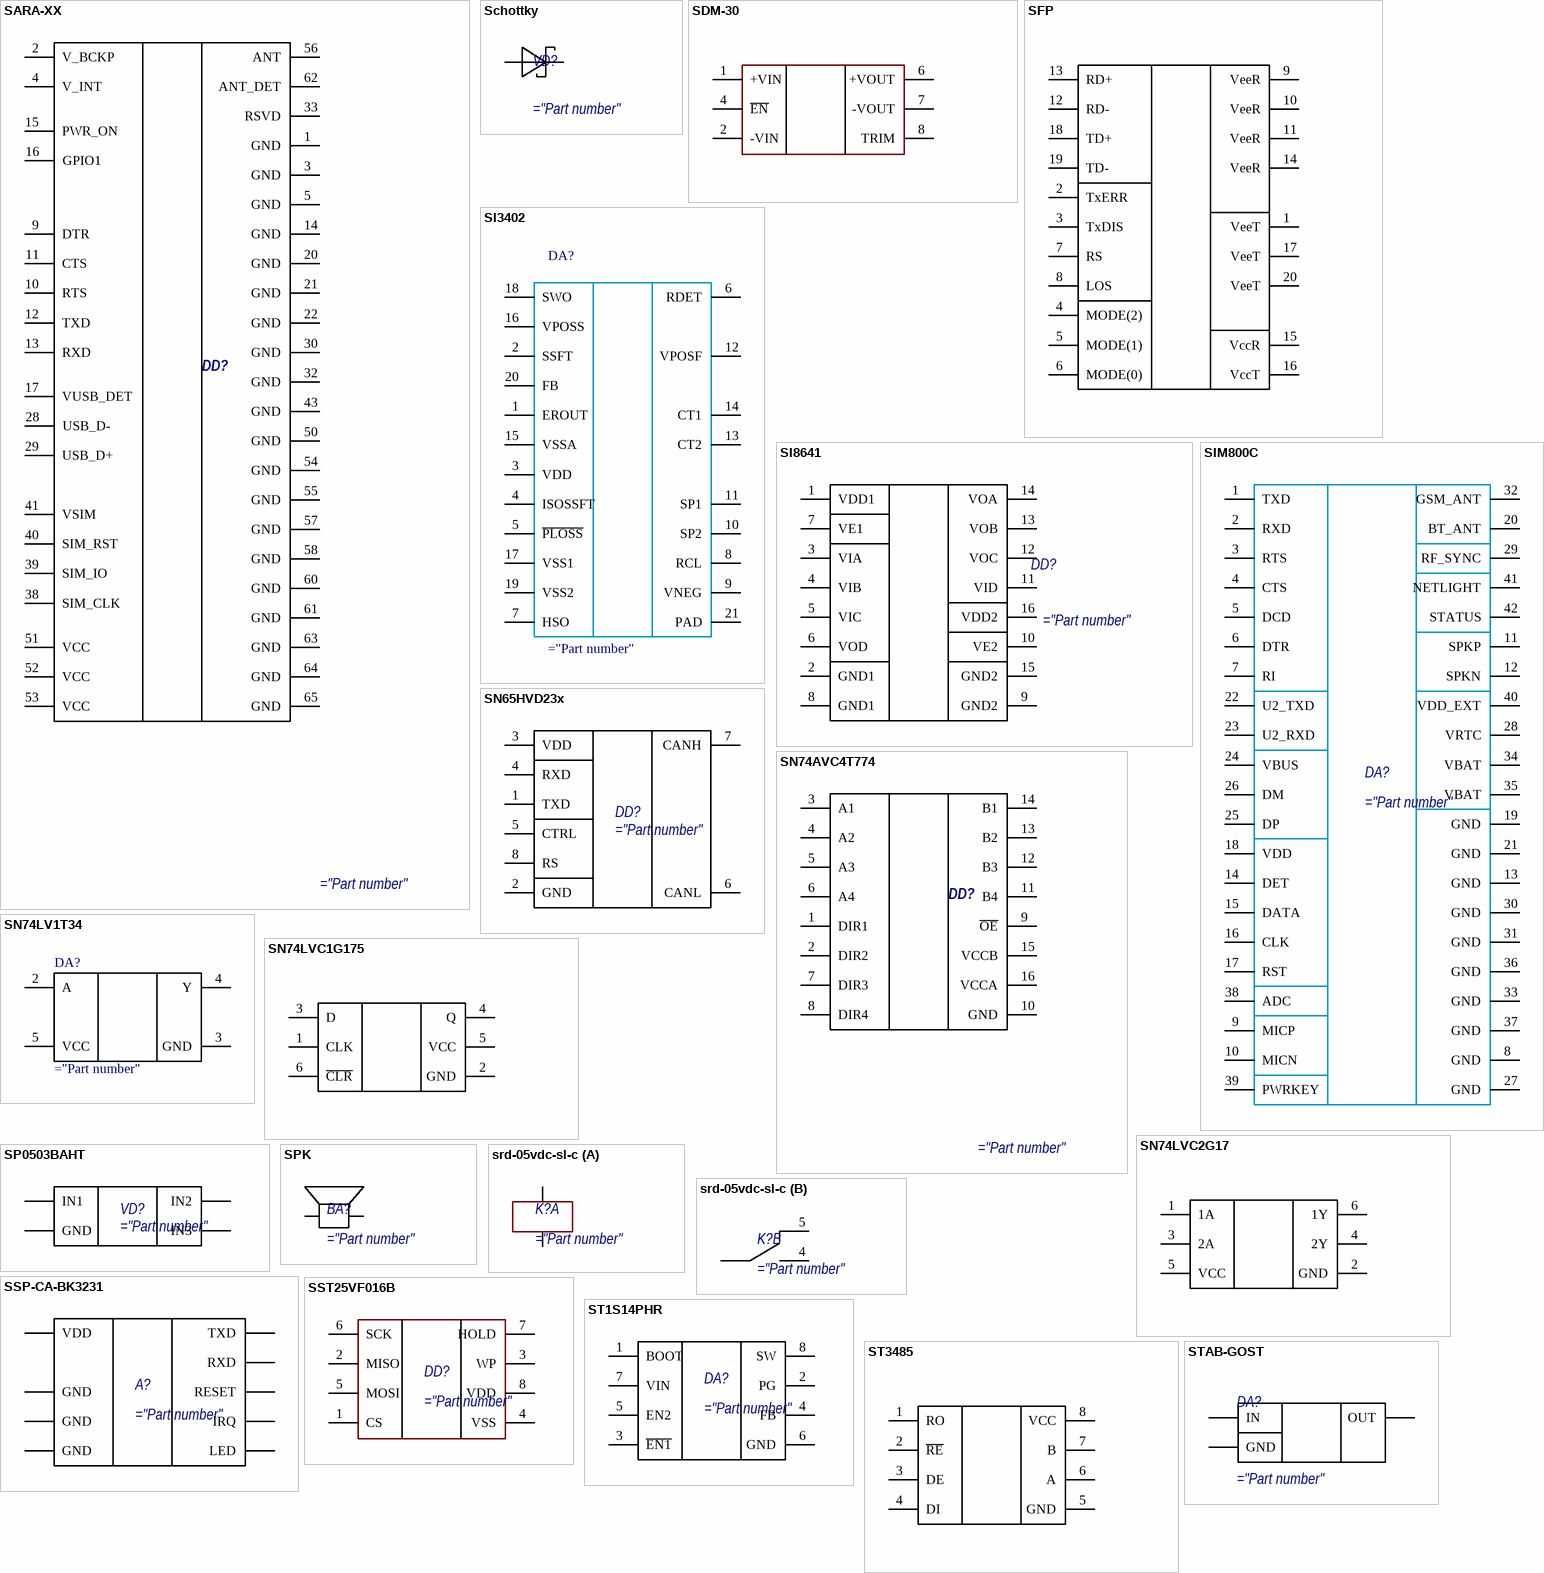
[diagram p14: symbols SARA-XX to STAB-GOST]

## SARA-XX
designator DD?
pins: 1 GND, 2 V_BCKP, 3 GND, 4 V_INT, 5 GND, 9 DTR, 10 RTS, 11 CTS, 12 TXD, 13 RXD, 14 GND, 15 PWR_ON, 16 GPIO1, 17 VUSB_DET, 20 GND, 21 GND, 22 GND, 28 USB_D-, 29 USB_D+, 30 GND, 32 GND, 33 RSVD, 38 SIM_CLK, 39 SIM_IO, 40 SIM_RST, 41 VSIM, 43 GND, 50 GND, 51 VCC, 52 VCC, 53 VCC, 54 GND, 55 GND, 56 ANT, 57 GND, 58 GND, 60 GND, 61 GND, 62 ANT_DET, 63 GND, 64 GND, 65 GND

## Schottky
designator VD?
pins: A, C

## SDM-30
designator DA?
pins: 1 +VIN, 2 -VIN, 4 ~{EN}, 6 +VOUT, 7 -VOUT, 8 TRIM

## SFP
designator DA?
pins: 1 VeeT, 2 TxERR, 3 TxDIS, 4 MODE(2), 5 MODE(1), 6 MODE(0), 7 RS, 8 LOS, 9 VeeR, 10 VeeR, 11 VeeR, 12 RD-, 13 RD+, 14 VeeR, 15 VccR, 16 VccT, 17 VeeT, 18 TD+, 19 TD-, 20 VeeT

## SI3402
designator DA?
pins: 1 EROUT, 2 SSFT, 3 VDD, 4 ISOSSFT, 5 ~{PLOSS}, 6 RDET, 7 HSO, 8 RCL, 9 VNEG, 10 SP2, 11 SP1, 12 VPOSF, 13 CT2, 14 CT1, 15 VSSA, 16 VPOSS, 17 VSS1, 18 SWO, 19 VSS2, 20 FB, 21 PAD

## SI8641
designator DD?
pins: 1 VDD1, 2 GND1, 3 VIA, 4 VIB, 5 VIC, 6 VOD, 7 VE1, 8 GND1, 9 GND2, 10 VE2, 11 VID, 12 VOC, 13 VOB, 14 VOA, 15 GND2, 16 VDD2

## SIM800C
designator DA?
pins: 1 TXD, 2 RXD, 3 RTS, 4 CTS, 5 DCD, 6 DTR, 7 RI, 8 GND, 9 MICP, 10 MICN, 11 SPKP, 12 SPKN, 13 GND, 14 DET, 15 DATA, 16 CLK, 17 RST, 18 VDD, 19 GND, 20 BT_ANT, 21 GND, 22 U2_TXD, 23 U2_RXD, 24 VBUS, 25 DP, 26 DM, 27 GND, 28 VRTC, 29 RF_SYNC, 30 GND, 31 GND, 32 GSM_ANT, 33 GND, 34 VBAT, 35 VBAT, 36 GND, 37 GND, 38 ADC, 39 PWRKEY, 40 VDD_EXT, 41 NETLIGHT, 42 STATUS

## SN65HVD23x
designator DD?
pins: 1 TXD, 2 GND, 3 VDD, 4 RXD, 5 CTRL, 6 CANL, 7 CANH, 8 RS

## SN74AVC4T774
designator DD?
pins: 1 DIR1, 2 DIR2, 3 A1, 4 A2, 5 A3, 6 A4, 7 DIR3, 8 DIR4, 9 ~{OE}, 10 GND, 11 B4, 12 B3, 13 B2, 14 B1, 15 VCCB, 16 VCCA

## SN74LV1T34
designator DA?
pins: 2 A, 3 GND, 4 Y, 5 VCC

## SN74LVC1G175
designator DA?
pins: 1 CLK, 2 GND, 3 D, 4 Q, 5 VCC, 6 ~{CLR}

## SN74LVC2G17
designator DA?
pins: 1 1A, 2 GND, 3 2A, 4 2Y, 5 VCC, 6 1Y

## SP0503BAHT
designator VD?
pins: 1 GND, 2 IN1, 3 IN2, 4 IN3

## SPK
designator BA?
signal-integrity model Res
pins: 1, 2

## srd-05vdc-sl-c
designator K?
part A pins: 1, 2
part B pins: 3, 4, 5

## SSP-CA-BK3231
designator A?
pins: 1 TXD, 2 RXD, 11 RESET, 12 VDD, 13 GND, 16 LED, 21 GND, 22 GND, 25 IRQ

## SST25VF016B
designator DD?
pins: 1 CS, 2 MISO, 3 WP, 4 VSS, 5 MOSI, 6 SCK, 7 HOLD, 8 VDD

## ST1S14PHR
designator DA?
pins: 1 BOOT, 2 PG, 3 ~{EN1}, 4 FB, 5 EN2, 6 GND, 7 VIN, 8 SW

## ST3485
designator DD?
pins: 1 RO, 2 ~{RE}, 3 DE, 4 DI, 5 GND, 6 A, 7 B, 8 VCC

## STAB-GOST
designator DA?
pins: G GND, I IN, O OUT

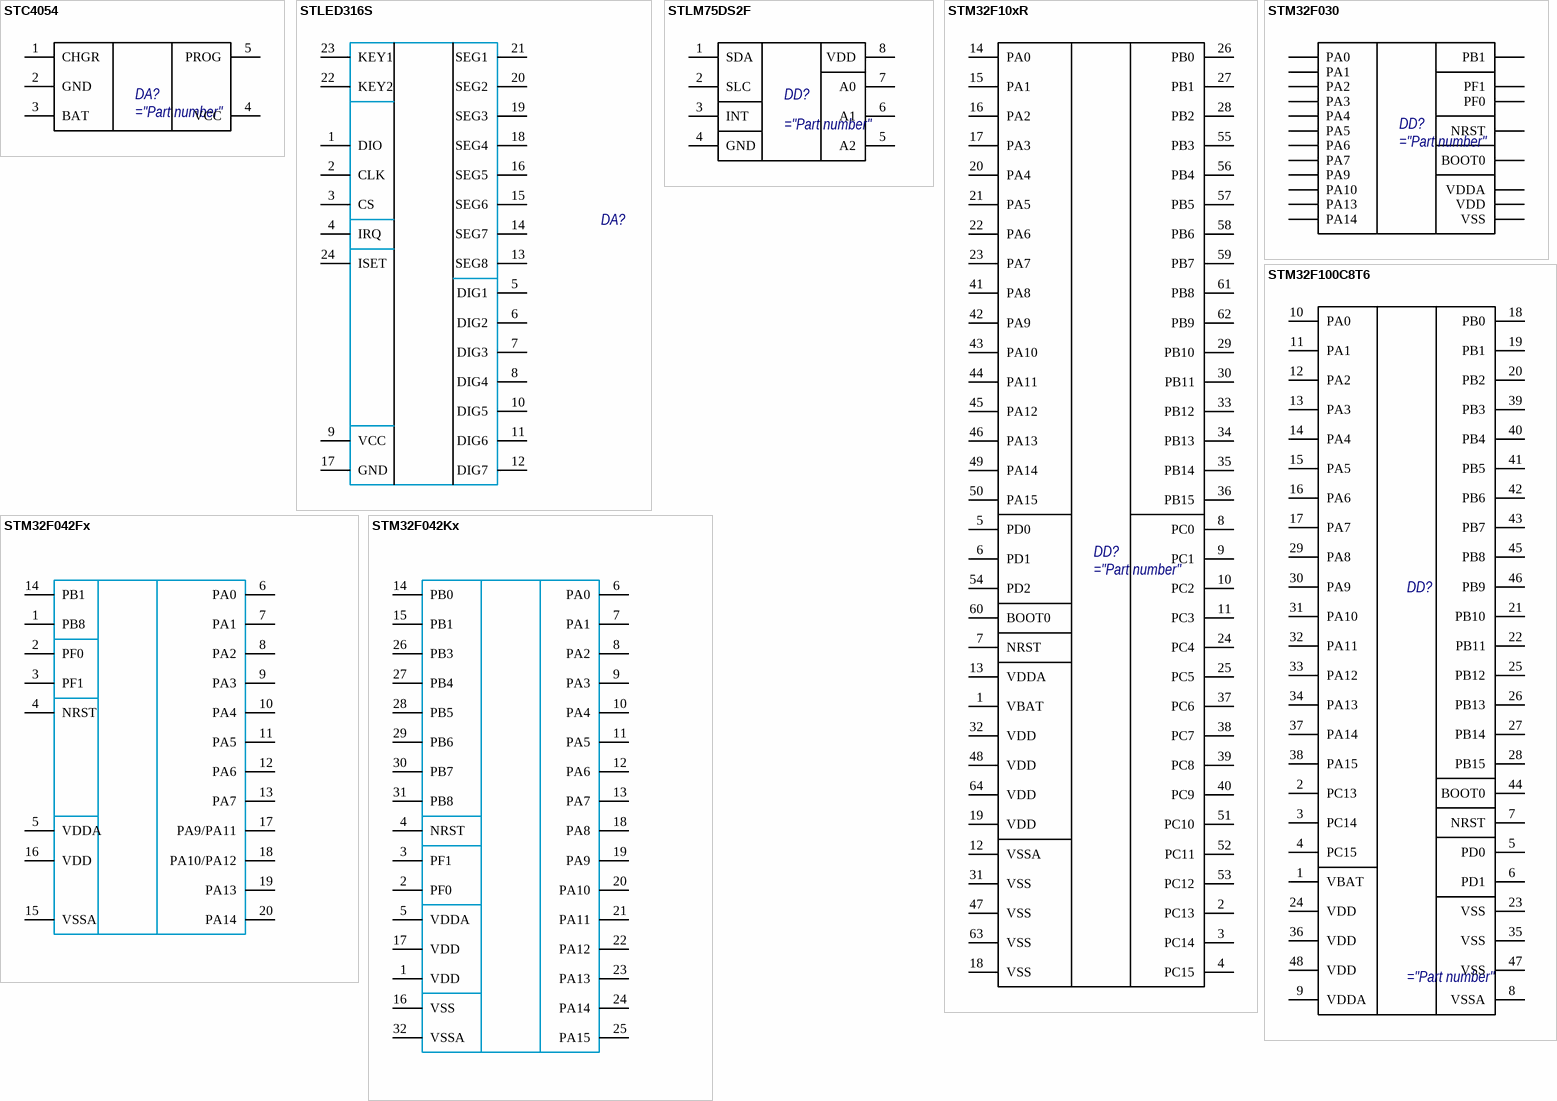
[diagram p15: symbols STC4054 to STM32F100C8T6]

## STC4054
designator DA?
pins: 1 CHGR, 2 GND, 3 BAT, 4 VCC, 5 PROG

## STLED316S
designator DA?
pins: 1 DIO, 2 CLK, 3 CS, 4 IRQ, 5 DIG1, 6 DIG2, 7 DIG3, 8 DIG4, 9 VCC, 10 DIG5, 11 DIG6, 12 DIG7, 13 SEG8, 14 SEG7, 15 SEG6, 16 SEG5, 17 GND, 18 SEG4, 19 SEG3, 20 SEG2, 21 SEG1, 22 KEY2, 23 KEY1, 24 ISET

## STLM75DS2F
designator DD?
pins: 1 SDA, 2 SLC, 3 INT, 4 GND, 5 A2, 6 A1, 7 A0, 8 VDD

## STM32F10xR
designator DD?
pins: 1 VBAT, 2 PC13 "PC13-TAMPER-RTC/PC13/TAMPER-RTC", 3 PC14 "PC14-OSC32_IN/PC14/OSC32_IN", 4 PC15 "PC15-OSC32_OUT/PC15/OSC32_OUT", 5 PD0 "PD0/OSC_IN/CAN_RX", 6 PD1 "PD1/OSC_OUT/CAN_TX", 7 NRST, 8 PC0 "PC0/ADC123_IN10", 9 PC1 "PC1/ADC123_IN11", 10 PC2 "PC2/ADC123_IN12", 11 PC3 "PC3/ADC123_IN13", 12 VSSA, 13 VDDA, 14 PA0 "PA0-WKUP/PA0/WKUP/USART2_CTS/ADC123_IN0/TIM2_CH1_ETR/TIM5_CH1/TIM8_ETR", 15 PA1 "PA1/USART2_RTS/ADC123_IN1/TIM5_CH2/TIM2_CH2", 16 PA2 "PA2/USART2_TX/TIM5_CH3/ADC123_IN2/TIM2_CH3", 17 PA3 "PA3/USART2_RX/TIM5_CH4/ADC123_IN3/TIM2_CH4", 18 VSS, 19 VDD "VDD_4", 20 PA4 "PA4/SPI1_NSS/USART2_CK/DAC_OUT1/ADC12_IN4", 21 PA5 "PA5/SPI1_SCK/DAC_OUT2/ADC12_IN5", 22 PA6 "PA6/SPI1_MISO/TIM8_BKIN/ADC12_IN6/TIM3_CH1/TIM1_BKIN", 23 PA7 "PA7/SPI1_MOSI/TIM8_CH1N/ADC12_IN7/TIM3_CH2/TIM1_CH1N", 24 PC4 "PC4/ADC12_IN14", 25 PC5 "PC5/ADC12_IN15", 26 PB0 "PB0/ADC12_IN8/TIM3_CH3/TIM8_CH2N/TIM1_CH2N", 27 PB1 "PB1/ADC12_IN9/TIM3_CH4/TIM8_CH3N/TIM1_CH3N", 28 PB2 "PB2/BOOT1", 29 PB10 "PB10/I2C2_SCL/USART3_TX/TIM2_CH3", 30 PB11 "PB11/I2C2_SDA/USART3_RX/TIM2_CH4", 31 VSS, 32 VDD "VDD_1", 33 PB12 "PB12/SPI2_NSS/I2S2_WS/I2C2_SMBA/USART3_CK/TIM1_BKIN", 34 PB13 "PB13/SPI2_SCK/I2S2_CK/USART3_CTS/TIM1_CH1N", 35 PB14 "PB14/SPI2_MISO/TIM1_CH2N/USART3_RTS", 36 PB15 "PB15/SPI2_MOSI/I2S2_SD/TIM1_CH3N", 37 PC6 "PC6/I2S2_MCK/TIM8_CH1/SDIO_D6/TIM3_CH1", 38 PC7 "PC7/I2S3_MCK/TIM8_CH2/SDIO_D7/TIM3_CH2", 39 PC8 "PC8/TIM8_CH3/SDIO_D0/TIM3_CH3", 40 PC9 "PC9/TIM8_CH4/SDIO_D1/TIM3_CH4", 41 PA8 "PA8/USART1_CK/TIM1_CH1/MCO", 42 PA9 "PA9/USART1_TX/TIM1_CH2", 43 PA10 "PA10/USART1_RX/TIM1_CH3", 44 PA11 "PA11/USART1_CTS/USBDM/CAN_RX/TIM1_CH4", 45 PA12 "PA12/USART1_RTS/USBDP/CAN_TX/TIM1_ETR", 46 PA13 "PA13/JTMS-SWDIO", 47 VSS, 48 VDD "VDD_2", 49 PA14 "PA14/JTCK-SWCLK", 50 PA15 "PA15/JTDI/SPI3_NSS/I2S3_WS/TIM2_CH1_ETR/SPI1_NSS", 51 PC10 "PC10/UART4_TX/SDIO_D2/USART3_TX", 52 PC11 "PC11/UART4_RX/SDIO_D3/USART3_RX", 53 PC12 "PC12/UART5_TX/SDIO_CK/USART3_CK", 54 PD2 "PD2/TIM3_ETR/UART5_RX/SDIO_CMD", 55 PB3 "PB3/JTDO/SPI3_SCK/I2S3_CK/TRACESWO/TIM2_CH2/SPI1_SCK", 56 PB4 "PB4/NJTRST/SPI3_MISO/TIM3_CH1/SPI1_MISO", 57 PB5 "PB5/I2C1_SMBA/SPI3_MOSI/I2S3_SD/TIM3_CH2/SPI1_MOSI", 58 PB6 "PB6/I2C1_SCL/TIM4_CH1/USART1_TX", 59 PB7 "PB7/I2C1_SDA/TIM4_CH2/USART1_RX", 60 BOOT0, 61 PB8 "PB8/TIM4_CH3/SDIO_D4/I2C1_SCL/CAN_RX", 62 PB9 "PB9/TIM4_CH4/SDIO_D5/I2C1_SDA/CAN_TX", 63 VSS, 64 VDD "VDD_3"

## STM32F030
designator DD?
pins: 1 BOOT0, 2 PF0, 3 PF1, 4 NRST, 5 VDDA, 6 PA0, 7 PA1, 8 PA2, 9 PA3, 10 PA4, 11 PA5, 12 PA6, 13 PA7, 14 PB1, 15 VSS, 16 VDD, 17 PA9, 18 PA10, 19 PA13, 20 PA14
1 alternate drawing of the same symbol

## STM32F042Fx
designator DD?
pins: 1 PB8, 2 PF0, 3 PF1, 4 NRST, 5 VDDA, 6 PA0, 7 PA1, 8 PA2, 9 PA3, 10 PA4, 11 PA5, 12 PA6, 13 PA7, 14 PB1, 15 VSSA, 16 VDD, 17 PA9/PA11, 18 PA10/PA12, 19 PA13, 20 PA14

## STM32F042Kx
designator DD?
pins: 1 VDD, 2 PF0, 3 PF1, 4 NRST, 5 VDDA, 6 PA0, 7 PA1, 8 PA2, 9 PA3, 10 PA4, 11 PA5, 12 PA6, 13 PA7, 14 PB0, 15 PB1, 16 VSS, 17 VDD, 18 PA8, 19 PA9, 20 PA10, 21 PA11, 22 PA12, 23 PA13, 24 PA14, 25 PA15, 26 PB3, 27 PB4, 28 PB5, 29 PB6, 30 PB7, 31 PB8, 32 VSSA

## STM32F100C8T6
designator DD?
pins: 1 VBAT, 2 PC13 "PC13-TAMPER-RTC/PC13/TAMPER-RTC", 3 PC14 "PC14-OSC32_IN/PC14/OSC32_IN", 4 PC15 "PC15-OSC32_OUT/PC15/OSC32_OUT", 5 PD0 "PD0/OSC_IN", 6 PD1 "PD1/OSC_OUT", 7 NRST, 8 VSSA, 9 VDDA, 10 PA0 "PA0-WKUP/PA0/WKUP/USART2_CTS/ADC1_IN0/TIM2_CH1_ETR", 11 PA1 "PA1/USART2_RTS/ADC1_IN1/TIM2_CH2", 12 PA2 "PA2/USART2_TX/ADC1_IN2/TIM2_CH3/TIM15_CH1", 13 PA3 "PA3/USART2_RX/ADC1_IN3/TIM2_CH4/TIM15_CH2", 14 PA4 "PA4/SPI1_NSS/ADC1_IN4/USART2_CK/DAC1_OUT", 15 PA5 "PA5/SPI1_SCK/ADC1_IN5/DAC2_OUT", 16 PA6 "PA6/SPI1_MISO/ADC1_IN6/TIM3_CH1/TIM1_BKIN/TIM16_CH1", 17 PA7 "PA7/SPI1_MOSI/ADC1_IN7/TIM3_CH2/TIM1_CH1N/TIM17_CH1", 18 PB0 "PB0/ADC1_IN8/TIM3_CH3/TIM1_CH2N", 19 PB1 "PB1/ADC1_IN9/TIM3_CH4/TIM1_CH3N", 20 PB2 "PB2/BOOT1", 21 PB10 "PB10/I2C2_SCL/USART3_TX/TIM2_CH3/HDMI_CEC", 22 PB11 "PB11/I2C2_SDA/USART3_RX/TIM2_CH4", 23 VSS "VSS_1", 24 VDD "VDD_1", 25 PB12 "PB12/SPI2_NSS/I2C2_SMBA/TIM1_BKIN/USART3_CK", 26 PB13 "PB13/SPI2_SCK/TIM1_CH1N/USART3_CTS", 27 PB14 "PB14/SPI2_MISO/TIM1_CH2N/USART3_RTS/TIM15_CH1", 28 PB15 "PB15/SPI2_MOSI/TIM1_CH3N/TIM15_CH1N/TIM15_CH2", 29 PA8 "PA8/USART1_CK/MCO/TIM1_CH1", 30 PA9 "PA9/USART1_TX/TIM1_CH2/TIM15_BKIN", 31 PA10 "PA10/USART1_RX/TIM1_CH3/TIM17_BKIN", 32 PA11 "PA11/USART1_CTS/TIM1_CH4", 33 PA12 "PA12/USART1_RTS/TIM1_ETR", 34 PA13 "PA13/JTMS-SWDIO", 35 VSS "VSS_2", 36 VDD "VDD_2", 37 PA14 "PA14/JTCK/SWCLK", 38 PA15 "PA15/JTDI/TIM2_CH1_ETR/SPI1_NSS", 39 PB3 "PB3/JTDO/TIM2_CH2/TRACESWO/SPI1_SCK", 40 PB4 "PB4/NJTRST/TIM3_CH1/SPI1_MISO", 41 PB5 "PB5/I2C1_SMBA/TIM16_BKIN/TIM3_CH2/SPI1_MOSI", 42 PB6 "PB6/I2C1_SCL/TIM4_CH1/TIM16_CH1N/USART1_TX", 43 PB7 "PB7/I2C1_SDA/TIM17_CH1N/TIM4_CH2/USART1_RX", 44 BOOT0, 45 PB8 "PB8/TIM4_CH3/TIM16_CH1/CEC/I2C1_SCL", 46 PB9 "PB9/TIM4_CH4/TIM17_CH1/I2C1_SDA", 47 VSS "VSS_3", 48 VDD "VDD_3"
1 alternate drawing of the same symbol

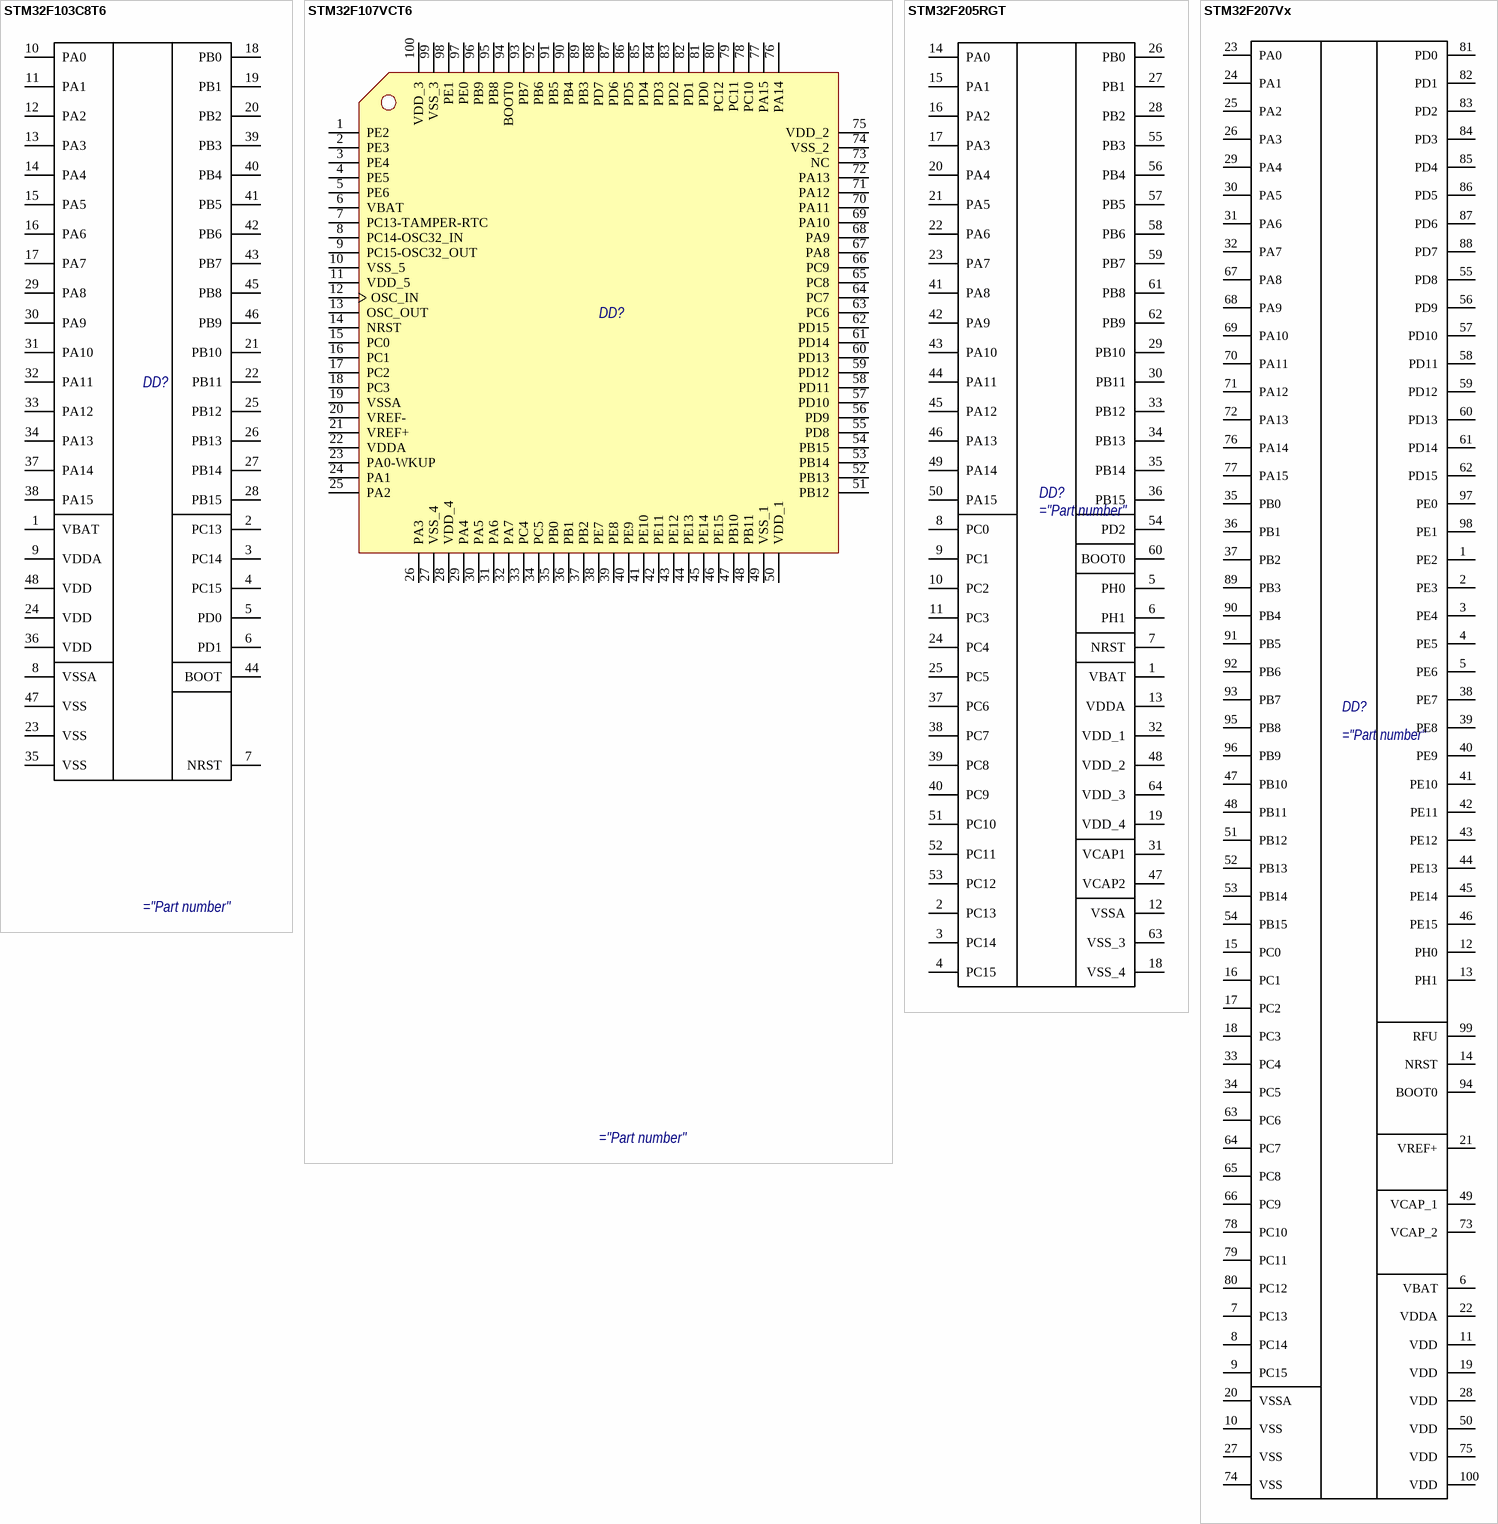
[diagram p16: symbols STM32F103C8T6 to STM32F207Vx]

## STM32F103C8T6
designator DD?
pins: 1 VBAT, 2 PC13, 3 PC14, 4 PC15, 5 PD0, 6 PD1, 7 NRST, 8 VSSA, 9 VDDA, 10 PA0, 11 PA1, 12 PA2, 13 PA3, 14 PA4, 15 PA5, 16 PA6, 17 PA7, 18 PB0, 19 PB1, 20 PB2, 21 PB10, 22 PB11, 23 VSS, 24 VDD, 25 PB12, 26 PB13, 27 PB14, 28 PB15, 29 PA8, 30 PA9, 31 PA10, 32 PA11, 33 PA12, 34 PA13, 35 VSS, 36 VDD, 37 PA14, 38 PA15, 39 PB3, 40 PB4, 41 PB5, 42 PB6, 43 PB7, 44 BOOT, 45 PB8, 46 PB9, 47 VSS, 48 VDD

## STM32F107VCT6
designator DD?
pins: 1 PE2, 2 PE3, 3 PE4, 4 PE5, 5 PE6, 6 VBAT, 7 PC13-TAMPER-RTC, 8 PC14-OSC32_IN, 9 PC15-OSC32_OUT, 10 VSS_5, 11 VDD_5, 12 OSC_IN, 13 OSC_OUT, 14 NRST, 15 PC0, 16 PC1, 17 PC2, 18 PC3, 19 VSSA, 20 VREF-, 21 VREF+, 22 VDDA, 23 PA0-WKUP, 24 PA1, 25 PA2, 26 PA3, 27 VSS_4, 28 VDD_4, 29 PA4, 30 PA5, 31 PA6, 32 PA7, 33 PC4, 34 PC5, 35 PB0, 36 PB1, 37 PB2, 38 PE7, 39 PE8, 40 PE9, 41 PE10, 42 PE11, 43 PE12, 44 PE13, 45 PE14, 46 PE15, 47 PB10, 48 PB11, 49 VSS_1, 50 VDD_1, 51 PB12, 52 PB13, 53 PB14, 54 PB15, 55 PD8, 56 PD9, 57 PD10, 58 PD11, 59 PD12, 60 PD13, 61 PD14, 62 PD15, 63 PC6, 64 PC7, 65 PC8, 66 PC9, 67 PA8, 68 PA9, 69 PA10, 70 PA11, 71 PA12, 72 PA13, 73 NC, 74 VSS_2, 75 VDD_2, 76 PA14, 77 PA15, 78 PC10, 79 PC11, 80 PC12, 81 PD0, 82 PD1, 83 PD2, 84 PD3, 85 PD4, 86 PD5, 87 PD6, 88 PD7, 89 PB3, 90 PB4, 91 PB5, 92 PB6, 93 PB7, 94 BOOT0, 95 PB8, 96 PB9, 97 PE0, 98 PE1, 99 VSS_3, 100 VDD_3
1 alternate drawing of the same symbol

## STM32F205RGT
designator DD?
pins: 1 VBAT, 2 PC13, 3 PC14, 4 PC15, 5 PH0, 6 PH1, 7 NRST, 8 PC0, 9 PC1, 10 PC2, 11 PC3, 12 VSSA, 13 VDDA, 14 PA0, 15 PA1, 16 PA2, 17 PA3, 18 VSS_4, 19 VDD_4, 20 PA4, 21 PA5, 22 PA6, 23 PA7, 24 PC4, 25 PC5, 26 PB0, 27 PB1, 28 PB2, 29 PB10, 30 PB11, 31 VCAP1, 32 VDD_1, 33 PB12, 34 PB13, 35 PB14, 36 PB15, 37 PC6, 38 PC7, 39 PC8, 40 PC9, 41 PA8, 42 PA9, 43 PA10, 44 PA11, 45 PA12, 46 PA13, 47 VCAP2, 48 VDD_2, 49 PA14, 50 PA15, 51 PC10, 52 PC11, 53 PC12, 54 PD2, 55 PB3, 56 PB4, 57 PB5, 58 PB6, 59 PB7, 60 BOOT0, 61 PB8, 62 PB9, 63 VSS_3, 64 VDD_3